# EAGLE library part 4VFX140FF1517 (library xilinx_spartan3_virtex4_and_5)
Xilinx FPGA
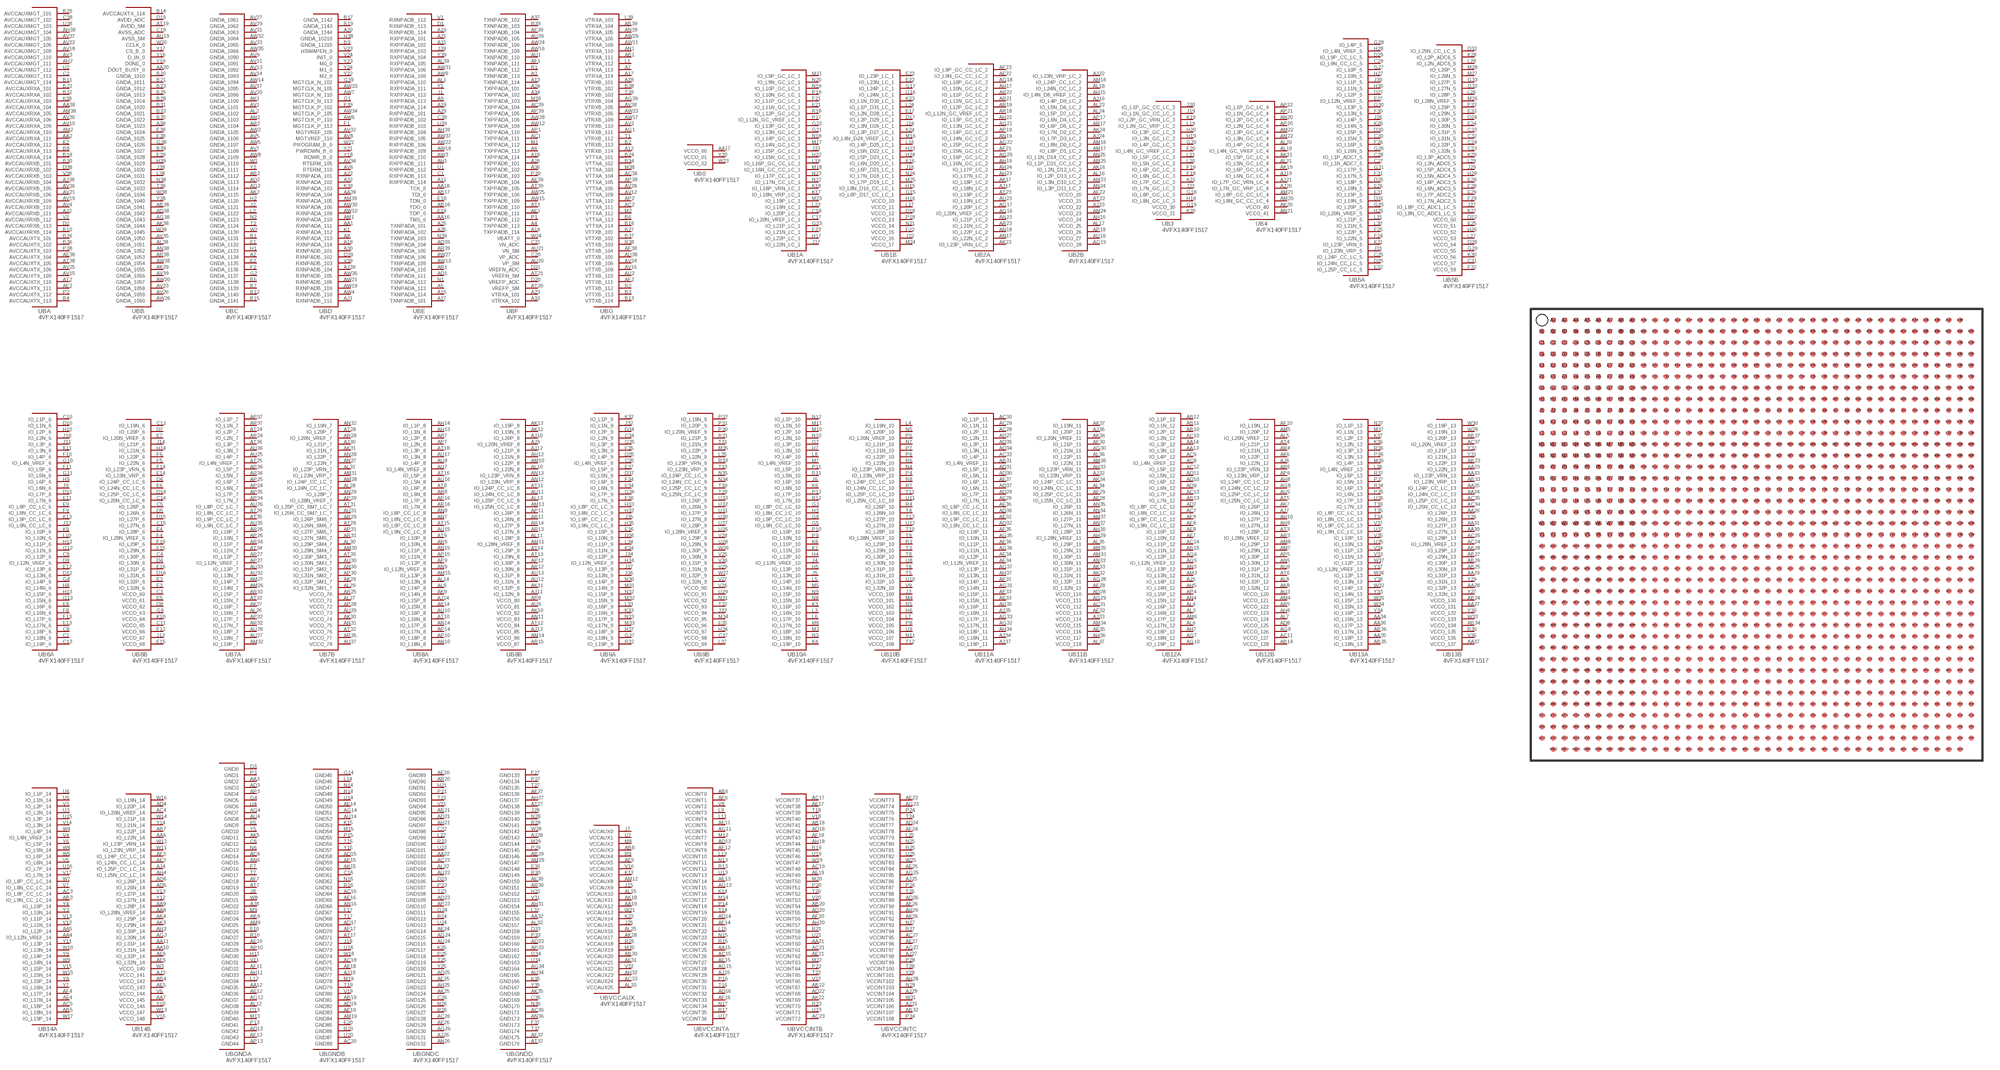
[diagram p70: symbol with the pads of FF1517; footprint FF1517]

Designator prefix U; gates BA=4VFX140FF1517_A BB=4VFX140FF1517_B BC=4VFX140FF1517_C BD=4VFX140FF1517_D BE=4VFX140FF1517_E BF=4VFX140FF1517_F BG=4VFX140FF1517_G B0=4VFX140FF1517_0 B1A=4VFX140FF1517_1A B1B=4VFX140FF1517_1B B2A=4VFX140FF1517_2A B2B=4VFX140FF1517_2B B3=4VFX140FF1517_3 B4=4VFX140FF1517_4 B5A=4VFX140FF1517_5A B5B=4VFX140FF1517_5B B6A=4VFX140FF1517_6A B6B=4VFX140FF1517_6B B7A=4VFX140FF1517_7A B7B=4VFX140FF1517_7B B8A=4VFX140FF1517_8A B8B=4VFX140FF1517_8B B9A=4VFX140FF1517_9A B9B=4VFX140FF1517_9B B10A=4VFX140FF1517_10A B10B=4VFX140FF1517_10B B11A=4VFX140FF1517_11A B11B=4VFX140FF1517_11B B12A=4VFX140FF1517_12A B12B=4VFX140FF1517_12B B13A=4VFX140FF1517_13A B13B=4VFX140FF1517_13B B14A=4VFX140FF1517_14A B14B=4VFX140FF1517_14B BGNDA=4VFX140FF1517_GNDA BGNDB=4VFX140FF1517_GNDB BGNDC=4VFX140FF1517_GNDC BGNDD=4VFX140FF1517_GNDD BVCCAUX=4VFX140FF1517_VCCAUX BVCCINTA=4VFX140FF1517_VCCINTA BVCCINTB=4VFX140FF1517_VCCINTB BVCCINTC=4VFX140FF1517_VCCINTC

## 4VFX140FF1517  [FF1517]
A2  BC:GNDA_1134
A3  BF:TXNPADB_113
A4  BF:TXPPADB_113
A5  BE:TXNPADA_113
A6  BF:TXPPADA_113
A7  BG:VTRXA_113
A8  BD:RXNPADA_113
A9  BE:RXPPADA_113
A10  BE:RXNPADB_114
A11  BE:RXPPADB_114
A12  BG:VTRXB_114
A13  BF:TXNPADB_114
A14  BF:TXPPADB_114
A15  BE:TXNPADA_114
A16  BF:TXPPADA_114
A17  BG:VTRXA_114
A18  BD:RXNPADA_114
A19  BE:RXPPADA_114
A20  BD:GNDA_1144
A21  BE:RXPPADA_101
A22  BD:RXNPADA_101
A23  BF:VTRXA_101
A24  BF:TXPPADA_101
A25  BE:TXNPADA_101
A26  BF:TXPPADB_101
A27  BE:TXNPADB_101
A28  BG:VTRXB_101
A29  BE:RXPPADB_101
A30  BD:RXNPADB_101
A31  BE:RXPPADA_102
A32  BD:RXNPADA_102
A33  BF:VTRXA_102
A34  BF:TXPPADA_102
A35  BE:TXNPADA_102
A36  BF:TXPPADB_102
A37  BF:TXNPADB_102
A38  BB:GNDA_1023
AA1  BD:RXNPADA_111
AA2  BA:AVCCAUXRXA_111
AA3  BGNDA:GND2  pas
AA4  B14A:IO_L12N_VREF_14
AA5  B14A:IO_L12P_14
AA6  B14B:IO_L22N_14
AA7  B14B:VCCO_145  pas
AA8  B14B:IO_L28N_VREF_14
AA9  B14B:IO_L28P_14
AA10  B14B:IO_L31N_14
AA11  B14B:IO_L31P_14
AA12  BGNDA:GND35  pas
AA13  B12A:IO_L3N_12
AA14  B12A:IO_L3P_12
AA15  BVCCINTA:VCCINT25  pas
AA16  BE:TMS_0
AA17  B0:VCCO_00  pas
AA18  BE:TCK_0
AA19  BVCCAUX:VCCAUX12  pas
AA20  BB:DOUT_BUSY_0
AA21  BVCCINTB:VCCINT60  pas
AA22  BGNDC:GND102  pas
AA23  B13B:IO_L22N_13
AA24  B13B:IO_L24N_CC_LC_13
AA25  B13B:IO_L24P_CC_LC_13
AA26  B13B:IO_L26P_13
AA27  B13B:VCCO_131  pas
AA28  B13B:IO_L32P_13
AA29  B13B:IO_L31P_13
AA30  B13B:IO_L27N_13
AA31  B13B:IO_L27P_13
AA32  BGNDD:GND156  pas
AA33  B13B:IO_L23P_VRN_13
AA34  B13A:IO_L16N_13
AA35  B13A:IO_L18P_13
AA36  B13A:IO_L17P_13
AA37  B13B:VCCO_137  pas
AA38  BA:AVCCAUXRXA_104
AA39  BD:RXNPADA_104
AB1  BG:VTRXA_111
AB2  BC:GNDA_1112
AB3  B14A:IO_L9N_CC_LC_14
AB4  B14B:VCCO_142  pas
AB5  B14A:IO_L18N_14
AB6  BVCCINTA:VCCINT0  pas
AB7  B14B:IO_L22P_14
AB8  BVCCAUX:VCCAUX3  pas
AB9  BGNDA:GND24  pas
AB10  B12A:IO_L2P_12
AB11  B12A:IO_L1N_12
AB12  B12A:IO_L1P_12
AB13  B12A:IO_L7N_12
AB14  B12B:VCCO_128  pas
AB15  B12A:IO_L11N_12
AB16  BE:TDO_0
AB17  BE:TDI_0
AB18  BVCCINTB:VCCINT41  pas
AB19  BGNDB:GND81  pas
AB20  BVCCINTB:VCCINT54  pas
AB21  BGNDC:GND95  pas
AB22  BVCCINTB:VCCINT67  pas
AB23  B13B:IO_L22P_13
AB24  B13B:VCCO_130  pas
AB25  B13B:IO_L30N_13
AB26  B13B:IO_L30P_13
AB27  B13B:IO_L29N_13
AB28  B13B:IO_L29P_13
AB29  BGNDD:GND146  pas
AB30  BVCCAUX:VCCAUX20  pas
AB31  B11A:IO_L4N_VREF_11
AB32  BVCCINTC:VCCINT107  pas
AB33  B13B:IO_L23N_VRP_13
AB34  B13B:VCCO_134  pas
AB35  B13A:IO_L18N_13
AB36  B13A:IO_L17N_13
AB37  B13B:IO_L20P_13
AB38  BB:GNDA_1041
AB39  BG:VTRXA_104
AC1  BF:TXPPADA_111
AC2  BG:VTTXA_111
AC3  B14A:IO_L9P_CC_LC_14
AC4  B14B:IO_L20N_VREF_14
AC5  B14A:IO_L18P_14
AC6  BGNDA:GND14  pas
AC7  B12A:IO_L8N_CC_LC_12
AC8  B12A:IO_L4N_VREF_12
AC9  B12A:IO_L4P_12
AC10  B12A:IO_L2N_12
AC11  B12B:VCCO_127  pas
AC12  B12A:IO_L5P_12
AC13  B12A:IO_L7P_12
AC14  B12A:IO_L11P_12
AC15  BVCCINTA:VCCINT26  pas
AC16  BGNDB:GND64  pas
AC17  BVCCINTB:VCCINT37  pas
AC18  BGNDB:GND75  pas
AC19  BVCCINTB:VCCINT48  pas
AC20  BGNDB:GND88  pas
AC21  BVCCINTB:VCCINT61  pas
AC22  BGNDC:GND103  pas
AC23  BVCCINTB:VCCINT72  pas
AC24  B13B:IO_L28N_VREF_13
AC25  B13B:IO_L28P_13
AC26  BGNDC:GND128  pas
AC27  BVCCINTC:VCCINT95  pas
AC28  B11A:IO_L2P_11
AC29  B11A:IO_L1N_11
AC30  B11A:IO_L1P_11
AC31  B11B:VCCO_112  pas
AC32  B11A:IO_L4P_11
AC33  BVCCAUX:VCCAUX24  pas
AC34  B13B:IO_L25N_CC_LC_13
AC35  B13B:IO_L25P_CC_LC_13
AC36  BGNDD:GND171  pas
AC37  B13B:IO_L20N_VREF_13
AC38  BG:VTTXA_104
AC39  BF:TXPPADA_104
AD1  BE:TXNPADA_111
AD2  BC:GNDA_1113
AD3  BGNDA:GND3  pas
AD4  B14B:IO_L20P_14
AD5  B14B:IO_L26N_14
AD6  B14B:IO_L26P_14
AD7  B12A:IO_L8P_CC_LC_12
AD8  B12B:VCCO_125  pas
AD9  B12A:IO_L6N_12
AD10  B12A:IO_L6P_12
AD11  B12A:IO_L5N_12
AD12  BVCCINTA:VCCINT8  pas
AD13  BGNDA:GND42  pas
AD14  BVCCINTA:VCCINT20  pas
AD15  BGNDB:GND58  pas
AD16  BVCCINTA:VCCINT32  pas
AD17  BGNDB:GND69  pas
AD18  BVCCINTB:VCCINT42  pas
AD19  BGNDB:GND82  pas
AD20  BVCCINTB:VCCINT55  pas
AD21  BGNDC:GND96  pas
AD22  BVCCINTB:VCCINT68  pas
AD23  BGNDC:GND109  pas
AD24  BVCCINTC:VCCINT77  pas
AD25  BGNDC:GND121  pas
AD26  BVCCINTC:VCCINT89  pas
AD27  B11A:IO_L2N_11
AD28  B11B:VCCO_110  pas
AD29  B11A:IO_L7P_11
AD30  B11A:IO_L5N_11
AD31  B11A:IO_L5P_11
AD32  B11A:IO_L9N_CC_LC_11
AD33  BGNDD:GND160  pas
AD34  B11A:IO_L3N_11
AD35  B11A:IO_L3P_11
AD36  B11A:IO_L8N_CC_LC_11
AD37  B11A:IO_L6N_11
AD38  BB:GNDA_1042
AD39  BE:TXNPADA_104
AE1  BF:TXPPADB_111
AE2  BA:AVCCAUXTX_111
AE3  B14B:IO_L24N_CC_LC_14
AE4  B14A:IO_L17N_14
AE5  B14B:VCCO_143  pas
AE6  B14B:IO_L32P_14
AE7  B12A:IO_L10N_12
AE8  B12A:IO_L10P_12
AE9  BVCCAUX:VCCAUX5  pas
AE10  BGNDA:GND28  pas
AE11  BVCCINTA:VCCINT5  pas
AE12  BGNDA:GND36  pas
AE13  BVCCINTA:VCCINT14  pas
AE14  BGNDB:GND50  pas
AE15  BVCCINTA:VCCINT27  pas
AE16  BGNDB:GND65  pas
AE17  BVCCINTB:VCCINT38  pas
AE18  BGNDB:GND76  pas
AE19  BVCCINTB:VCCINT49  pas
AE20  BGNDC:GND89  pas
AE21  BVCCINTB:VCCINT62  pas
AE22  B2A:IO_L9N_GC_CC_LC_2
AE23  BVCCINTC:VCCINT73  pas
AE24  BGNDC:GND114  pas
AE25  BVCCINTC:VCCINT84  pas
AE26  BGNDC:GND129  pas
AE27  BVCCINTC:VCCINT96  pas
AE28  B11B:IO_L25N_CC_LC_11
AE29  B11A:IO_L7N_11
AE30  BGNDD:GND150  pas
AE31  BVCCAUX:VCCAUX21  pas
AE32  B11A:IO_L9P_CC_LC_11
AE33  B11A:IO_L15N_11
AE34  B11A:IO_L12P_11
AE35  B11B:VCCO_116  pas
AE36  B11A:IO_L8P_CC_LC_11
AE37  B11A:IO_L6P_11
AE38  BA:AVCCAUXTX_104
AE39  BF:TXPPADB_104
AF1  BF:TXNPADB_111
AF2  BG:VTTXB_111
AF3  B14B:IO_L24P_CC_LC_14
AF4  B14A:IO_L17P_14
AF5  B14B:IO_L32N_14
AF6  BVCCINTA:VCCINT1  pas
AF7  BGNDA:GND18  pas
AF8  B12A:IO_L9N_CC_LC_12
AF9  B12A:IO_L9P_CC_LC_12
AF10  B12B:IO_L19N_12
AF11  BGNDA:GND32  pas
AF12  BVCCINTA:VCCINT9  pas
AF13  BGNDA:GND43  pas
AF14  BVCCINTA:VCCINT21  pas
AF15  BGNDB:GND59  pas
AF16  BVCCINTA:VCCINT33  pas
AF17  BGNDB:GND70  pas
AF18  BVCCINTB:VCCINT43  pas
AF19  BGNDB:GND83  pas
AF20  BVCCINTB:VCCINT56  pas
AF21  B2A:IO_L15N_GC_LC_2
AF22  B2B:VCCO_20  pas
AF23  B2A:IO_L9P_GC_CC_LC_2
AF24  BVCCINTC:VCCINT78  pas
AF25  BGNDC:GND122  pas
AF26  BVCCINTC:VCCINT90  pas
AF27  BGNDD:GND136  pas
AF28  B11B:IO_L32N_11
AF29  B11B:IO_L25P_CC_LC_11
AF30  B11B:IO_L21P_11
AF31  B11A:IO_L14P_11
AF32  B11B:VCCO_113  pas
AF33  B11A:IO_L15P_11
AF34  B11A:IO_L12N_VREF_11
AF35  B11A:IO_L10P_11
AF36  B11A:IO_L11P_11
AF37  BGNDD:GND175  pas
AF38  BG:VTTXB_104
AF39  BF:TXNPADB_104
AG1  BG:VTRXB_111
AG2  BC:GNDA_1114
AG3  B14B:IO_L30N_14
AG4  BGNDA:GND7  pas
AG5  B12A:IO_L12N_VREF_12
AG6  B12A:IO_L12P_12
AG7  B12A:IO_L18N_12
AG8  B12B:IO_L24N_CC_LC_12
AG9  B12B:VCCO_126  pas
AG10  B12A:IO_L19P_12
AG11  BVCCINTA:VCCINT6  pas
AG12  BGNDA:GND37  pas
AG13  BVCCINTA:VCCINT15  pas
AG14  BGNDB:GND51  pas
AG15  BVCCINTA:VCCINT28  pas
AG16  B2A:IO_L20N_VREF_LC_2
AG17  B2A:IO_L20P_LC_2
AG18  B2A:IO_L10P_GC_LC_2
AG19  B2B:VCCO_28  pas
AG20  B2A:IO_L16P_GC_LC_2
AG21  B2A:IO_L13N_GC_LC_2
AG22  B2A:IO_L15P_GC_LC_2
AG23  BVCCINTC:VCCINT74  pas
AG24  BGNDC:GND115  pas
AG25  BVCCINTC:VCCINT85  pas
AG26  BGNDC:GND130  pas
AG27  BVCCINTC:VCCINT97  pas
AG28  B11B:IO_L32P_11
AG29  B11B:VCCO_111  pas
AG30  B11B:IO_L21N_11
AG31  B11A:IO_L14N_11
AG32  B11A:IO_L17N_11
AG33  B11A:IO_L17P_11
AG34  BGNDD:GND164  pas
AG35  B11A:IO_L10N_11
AG36  B11A:IO_L11N_11
AG37  B11A:IO_L13P_11
AG38  BB:GNDA_1043
AG39  BG:VTRXB_104
AH1  BE:RXPPADB_111
AH2  BA:AVCCAUXMGT_111
AH3  B14B:IO_L30P_14
AH4  B14B:IO_L25N_CC_LC_14
AH5  B12A:IO_L14N_12
AH6  B12B:VCCO_123  pas
AH7  B12A:IO_L18P_12
AH8  B12B:IO_L24P_CC_LC_12
AH9  B12B:IO_L27N_12
AH10  B12B:IO_L27P_12
AH11  BGNDA:GND33  pas
AH12  B8B:IO_L21N_8
AH13  B8A:IO_L1N_8
AH14  B8A:IO_L1P_8
AH15  B2B:IO_L4N_D8_VREF_LC_2
AH16  B2B:VCCO_24  pas
AH17  B2A:IO_L10N_GC_LC_2
AH18  BVCCINTB:VCCINT44  pas
AH19  B2A:IO_L16N_GC_LC_2
AH20  BVCCINTB:VCCINT57  pas
AH21  BGNDC:GND97  pas
AH22  B2A:IO_L13P_GC_LC_2
AH23  B2A:IO_L17N_LC_2
AH24  B2A:IO_L17P_LC_2
AH25  BGNDC:GND123  pas
AH26  BVCCINTC:VCCINT91  pas
AH27  BGNDD:GND137  pas
AH28  BVCCINTC:VCCINT102  pas
AH29  B11B:IO_L28N_VREF_11
AH30  B11B:IO_L28P_11
AH31  BGNDD:GND154  pas
AH32  BVCCAUX:VCCAUX23  pas
AH33  B11B:IO_L23P_VRN_11
AH34  B11A:IO_L18P_11
AH35  B11A:IO_L16P_11
AH36  B11B:VCCO_117  pas
AH37  B11A:IO_L13N_11
AH38  BA:AVCCAUXMGT_104
AH39  BE:RXPPADB_104
AJ1  BD:RXNPADB_111
AJ2  BA:AVCCAUXRXB_111
AJ3  B14B:VCCO_141  pas
AJ4  B14B:IO_L25P_CC_LC_14
AJ5  B12A:IO_L14P_12
AJ6  B12B:IO_L22N_12
AJ7  B12B:IO_L26N_12
AJ8  BGNDA:GND22  pas
AJ9  B8B:IO_L20N_VREF_8
AJ10  B8B:IO_L20P_8
AJ11  B8B:IO_L32N_8
AJ12  B8B:IO_L21P_8
AJ13  B8B:VCCO_85  pas
AJ14  B8A:IO_L15P_8
AJ15  BVCCINTA:VCCINT29  pas
AJ16  B2B:IO_L4P_D9_LC_2
AJ17  B2A:IO_L18N_LC_2
AJ18  BGNDB:GND77  pas
AJ19  B4:IO_L6N_GC_LC_4
AJ20  B4:IO_L7N_GC_VRP_LC_4
AJ21  B4:IO_L7P_GC_VRN_LC_4
AJ22  B2B:IO_L23N_VRP_LC_2
AJ23  B2B:VCCO_22  pas
AJ24  B2B:IO_L7P_D3_LC_2
AJ25  BVCCINTC:VCCINT86  pas
AJ26  BGNDC:GND131  pas
AJ27  BVCCINTC:VCCINT98  pas
AJ28  BGNDD:GND143  pas
AJ29  BVCCINTC:VCCINT104  pas
AJ30  B7B:IO_L21P_7
AJ31  BVCCINTC:VCCINT106  pas
AJ32  B11B:IO_L23N_VRP_11
AJ33  B11B:VCCO_114  pas
AJ34  B11A:IO_L18N_11
AJ35  B11A:IO_L16N_11
AJ36  B11B:IO_L20P_11
AJ37  B11A:IO_L19P_11
AJ38  BA:AVCCAUXRXB_104
AJ39  BD:RXNPADB_104
AK1  BC:GNDA_1100
AK2  BC:GNDA_1115
AK3  B14B:IO_L29N_14
AK4  B14B:IO_L29P_14
AK5  BGNDA:GND11  pas
AK6  B12B:IO_L22P_12
AK7  B12B:IO_L26P_12
AK8  B12B:IO_L32N_12
AK9  B8A:IO_L14N_8
AK10  B8B:VCCO_82  pas
AK11  B8B:IO_L32P_8
AK12  B8B:IO_L19N_8
AK13  B8B:IO_L19P_8
AK14  B8A:IO_L15N_8
AK15  BGNDB:GND60  pas
AK16  B2B:IO_L2N_D12_LC_2
AK17  B2A:IO_L18P_LC_2
AK18  BVCCAUX:VCCAUX11  pas
AK19  B4:IO_L6P_GC_LC_4
AK20  B4:VCCO_40  pas
AK21  B4:IO_L5P_GC_LC_4
AK22  BVCCINTB:VCCINT69  pas
AK23  B2A:IO_L23P_VRN_LC_2
AK24  B2B:IO_L7N_D2_LC_2
AK25  BGNDC:GND124  pas
AK26  BVCCINTC:VCCINT92  pas
AK27  B7A:IO_L16P_7
AK28  BVCCAUX:VCCAUX17  pas
AK29  B7B:IO_L32P_SM1_7
AK30  B7B:VCCO_74  pas
AK31  B7B:IO_L21N_7
AK32  B11B:IO_L31N_11
AK33  B11B:IO_L31P_11
AK34  B11B:IO_L24P_CC_LC_11
AK35  BGNDD:GND168  pas
AK36  B11B:IO_L20N_VREF_11
AK37  B11B:IO_L19N_11
AK38  BB:GNDA_1044
AK39  BB:GNDA_1055
AL1  BE:RXPPADA_110
AL2  BC:GNDA_1102
AL3  B12A:IO_L16N_12
AL4  B12A:IO_L16P_12
AL5  B12B:IO_L20N_VREF_12
AL6  B12A:IO_L17N_12
AL7  B12B:VCCO_124  pas
AL8  B12B:IO_L32P_12
AL9  B8A:IO_L14P_8
AL10  B8B:IO_L22N_8
AL11  B8B:IO_L28P_8
AL12  BGNDA:GND38  pas
AL13  B8B:IO_L25P_CC_LC_8
AL14  B8A:IO_L13N_8
AL15  BVCCAUX:VCCAUX10  pas
AL16  B2B:IO_L2P_D13_LC_2
AL17  B2B:VCCO_25  pas
AL18  B2B:IO_L24N_CC_LC_2
AL19  B4:IO_L4N_GC_VREF_LC_4
AL20  B4:IO_L4P_GC_LC_4
AL21  B4:IO_L5N_GC_LC_4
AL22  BGNDC:GND104  pas
AL23  B2B:IO_L5N_D6_LC_2
AL24  B2B:IO_L5P_D7_LC_2
AL25  BVCCAUX:VCCAUX16  pas
AL26  B7A:IO_L16N_7
AL27  B7B:VCCO_71  pas
AL28  B7B:IO_L24N_CC_LC_7
AL29  B7B:IO_L32N_SM1_7
AL30  B7B:IO_L29P_SM4_7
AL31  B7B:IO_L23P_VRN_7
AL32  BGNDD:GND157  pas
AL33  BVCCAUX:VCCAUX25  pas
AL34  B11B:IO_L24N_CC_LC_11
AL35  B11B:IO_L29P_11
AL36  B11B:IO_L22P_11
AL37  B11B:VCCO_118  pas
AL38  BB:GNDA_1051
AL39  BE:RXPPADA_105
AM1  BD:RXNPADA_110
AM2  BA:AVCCAUXRXA_110
AM3  B12A:IO_L13N_12
AM4  B12B:VCCO_121  pas
AM5  B12B:IO_L20P_12
AM6  B12A:IO_L17P_12
AM7  B12B:IO_L29N_12
AM8  B12B:IO_L29P_12
AM9  BGNDA:GND25  pas
AM10  B8B:IO_L22P_8
AM11  B8B:IO_L28N_VREF_8
AM12  BVCCAUX:VCCAUX8  pas
AM13  B8B:IO_L25N_CC_LC_8
AM14  B8B:VCCO_86  pas
AM15  B8A:IO_L13P_8
AM16  B2B:IO_L8N_D0_LC_2
AM17  B2B:IO_L8P_D1_LC_2
AM18  B2B:IO_L24P_CC_LC_2
AM19  BGNDB:GND84  pas
AM20  B4:IO_L8N_GC_CC_LC_4
AM21  B4:IO_L8P_GC_CC_LC_4
AM22  B4:IO_L3P_GC_LC_4
AM23  B2B:IO_L3N_D10_LC_2
AM24  B2B:VCCO_23  pas
AM25  B2B:IO_L1P_D15_CC_LC_2
AM26  B7A:IO_L14N_7
AM27  B7A:IO_L14P_7
AM28  B7B:IO_L24P_CC_LC_7
AM29  BGNDD:GND147  pas
AM30  B7B:IO_L29N_SM4_7
AM31  B7B:IO_L23N_VRP_7
AM32  B7A:IO_L19P_7
AM33  B11B:IO_L30P_11
AM34  B11B:VCCO_115  pas
AM35  B11B:IO_L29N_11
AM36  B11B:IO_L22N_11
AM37  B11B:IO_L27P_11
AM38  BA:AVCCAUXRXA_105
AM39  BD:RXNPADA_105
AN1  BG:VTRXA_110
AN2  BC:GNDA_1103
AN3  B12A:IO_L13P_12
AN4  B12A:IO_L15N_12
AN5  B12B:IO_L30N_12
AN6  BGNDA:GND15  pas
AN7  B8A:IO_L8N_CC_LC_8
AN8  B8A:IO_L8P_CC_LC_8
AN9  B8A:IO_L12N_VREF_8
AN10  B8A:IO_L18N_8
AN11  B8B:VCCO_83  pas
AN12  B8B:IO_L23N_VRP_8
AN13  B8B:IO_L23P_VRN_8
AN14  B8A:IO_L17P_8
AN15  B8A:IO_L11P_8
AN16  BGNDB:GND66  pas
AN17  B2A:IO_L22N_LC_2
AN18  B2A:IO_L22P_LC_2
AN19  B2A:IO_L14N_GC_LC_2
AN20  B4:IO_L2P_GC_LC_4
AN21  B4:VCCO_41  pas
AN22  B4:IO_L3N_GC_LC_4
AN23  B2A:IO_L21P_LC_2
AN24  B2B:IO_L3P_D11_LC_2
AN25  B2B:IO_L1N_D14_CC_LC_2
AN26  BGNDC:GND132  pas
AN27  B7B:IO_L22N_7
AN28  B7B:IO_L22P_7
AN29  B7B:IO_L28P_7
AN30  B7B:IO_L31P_SM2_7
AN31  B7B:VCCO_75  pas
AN32  B7B:IO_L19N_7
AN33  B11B:IO_L30N_11
AN34  B11B:IO_L26N_11
AN35  B11B:IO_L26P_11
AN36  BGNDD:GND172  pas
AN37  B11B:IO_L27N_11
AN38  BB:GNDA_1052
AN39  BG:VTRXA_105
AP1  BF:TXPPADA_110
AP2  BG:VTTXA_110
AP3  BGNDA:GND4  pas
AP4  B12A:IO_L15P_12
AP5  B12B:IO_L30P_12
AP6  B12B:IO_L23N_VRP_12
AP7  B8A:IO_L2N_8
AP8  B8B:VCCO_80  pas
AP9  B8A:IO_L12P_8
AP10  B8A:IO_L18P_8
AP11  B8B:IO_L26P_8
AP12  B8B:IO_L30P_8
AP13  BGNDA:GND44  pas
AP14  B8A:IO_L17N_8
AP15  B8A:IO_L11N_8
AP16  B8A:IO_L7P_8
AP17  B2B:IO_L6N_D4_LC_2
AP18  B2B:VCCO_26  pas
AP19  B2A:IO_L14P_GC_LC_2
AP20  B4:IO_L2N_GC_LC_4
AP21  B4:IO_L1N_GC_LC_4
AP22  B4:IO_L1P_GC_LC_4
AP23  BGNDC:GND110  pas
AP24  B7A:IO_L6N_7
AP25  B7A:IO_L6P_7
AP26  B7A:IO_L10N_7
AP27  B7A:IO_L12N_VREF_7
AP28  B7B:VCCO_72  pas
AP29  B7B:IO_L28N_VREF_7
AP30  B7B:IO_L31N_SM2_7
AP31  B7B:IO_L27P_SM5_7
AP32  B7A:IO_L17P_7
AP33  BGNDD:GND161  pas
AP34  B7A:IO_L7N_7
AP35  B7A:IO_L7P_7
AP36  B7A:IO_L5P_7
AP37  B7A:IO_L1P_7
AP38  BG:VTTXA_105
AP39  BF:TXPPADA_105
AR1  BE:TXNPADA_110
AR2  BC:GNDA_1104
AR3  B12B:IO_L28N_VREF_12
AR4  B12B:IO_L21N_12
AR5  B12B:VCCO_122  pas
AR6  B12B:IO_L23P_VRN_12
AR7  B8A:IO_L2P_8
AR8  B8A:IO_L6N_8
AR9  B8A:IO_L10N_8
AR10  BGNDA:GND29  pas
AR11  B8B:IO_L26N_8
AR12  B8B:IO_L30N_8
AR13  B8B:IO_L27N_8
AR14  B8B:IO_L27P_8
AR15  B8B:VCCO_87  pas
AR16  B8A:IO_L7N_8
AR17  B2B:IO_L6P_D5_LC_2
AR18  B2A:IO_L12N_GC_VREF_LC_2
AR19  B2A:IO_L12P_GC_LC_2
AR20  BGNDC:GND90  pas
AR21  B2A:IO_L11N_GC_LC_2
AR22  B2A:IO_L11P_GC_LC_2
AR23  B2A:IO_L21N_LC_2
AR24  B7A:IO_L2N_7
AR25  B7B:VCCO_70  pas
AR26  B7A:IO_L10P_7
AR27  B7A:IO_L12P_7
AR28  B7B:IO_L20N_VREF_7
AR29  B7B:IO_L26P_SM6_7
AR30  BGNDD:GND151  pas
AR31  B7B:IO_L27N_SM5_7
AR32  B7A:IO_L17N_7
AR33  B7A:IO_L15P_7
AR34  B7A:IO_L11P_7
AR35  B7B:VCCO_77  pas
AR36  B7A:IO_L5N_7
AR37  B7A:IO_L1N_7
AR38  BB:GNDA_1053
AR39  BE:TXNPADA_105
AT1  BF:TXPPADB_110
AT2  BA:AVCCAUXTX_110
AT3  B12B:IO_L28P_12
AT4  B12B:IO_L21P_12
AT5  B12B:IO_L25N_CC_LC_12
AT6  B12B:IO_L31N_12
AT7  BGNDA:GND19  pas
AT8  B8A:IO_L6P_8
AT9  B8A:IO_L10P_8
AT10  B8A:IO_L16N_8
AT11  B8B:IO_L24P_CC_LC_8
AT12  B8B:VCCO_84  pas
AT13  B8B:IO_L29N_8
AT14  B8B:IO_L29P_8
AT15  B8A:IO_L9P_CC_LC_8
AT16  B8A:IO_L5P_8
AT17  BGNDB:GND71  pas
AT18  B8A:IO_L3P_8
AT19  BB:AVDD_SM
AT20  BF:VREFP_SM
AT21  BF:VREFN_SM
AT22  B2B:VCCO_21  pas
AT23  B2A:IO_L19P_LC_2
AT24  B7A:IO_L2P_7
AT25  B7A:IO_L4N_VREF_7
AT26  B7A:IO_L8N_CC_LC_7
AT27  BGNDD:GND138  pas
AT28  B7B:IO_L20P_7
AT29  B7B:IO_L26N_SM6_7
AT30  B7B:IO_L30P_SM3_7
AT31  B7B:IO_L25P_CC_SM7_LC_7
AT32  B7B:VCCO_76  pas
AT33  B7A:IO_L15N_7
AT34  B7A:IO_L11N_7
AT35  B7A:IO_L9P_CC_LC_7
AT36  B7A:IO_L3P_7
AT37  BGNDD:GND176  pas
AT38  BA:AVCCAUXTX_105
AT39  BF:TXPPADB_105
AU1  BF:TXNPADB_110
AU2  BG:VTTXB_110
AU3  B12B:VCCO_120  pas
AU4  BGNDA:GND8  pas
AU5  B12B:IO_L25P_CC_LC_12
AU6  B12B:IO_L31P_12
AU7  B8A:IO_L4N_VREF_8
AU8  B8A:IO_L4P_8
AU9  B8B:VCCO_81  pas
AU10  B8A:IO_L16P_8
AU11  B8B:IO_L24N_CC_LC_8
AU12  B8B:IO_L31N_8
AU13  B8B:IO_L31P_8
AU14  BGNDB:GND52  pas
AU15  B8A:IO_L9N_CC_LC_8
AU16  B8A:IO_L5N_8
AU17  B8A:IO_L3N_8
AU18  B2B:VCCO_27  pas
AU19  BB:AVSS_SM
AU20  BF:VP_SM
AU21  BF:VN_SM
AU22  BGNDC:GND105  pas
AU23  B2A:IO_L19N_LC_2
AU24  BGNDC:GND116  pas
AU25  B7A:IO_L4P_7
AU26  B7A:IO_L8P_CC_LC_7
AU27  B7A:IO_L18N_7
AU28  B7A:IO_L18P_7
AU29  B7B:VCCO_73  pas
AU30  B7B:IO_L30N_SM3_7
AU31  B7B:IO_L25N_CC_SM7_LC_7
AU32  B7A:IO_L13N_7
AU33  B7A:IO_L13P_7
AU34  BGNDD:GND165  pas
AU35  B7A:IO_L9N_CC_LC_7
AU36  B7A:IO_L3N_7
AU37  B7B:VCCO_78  pas
AU38  BG:VTTXB_105
AU39  BF:TXNPADB_105
AV1  BC:GNDA_1101
AV2  BG:VTRXB_110
AV3  BA:AVCCAUXMGT_110
AV4  BA:AVCCAUXRXB_110
AV5  BC:GNDA_1106
AV6  BD:RTERM_110
AV7  BC:GNDA_1108
AV8  BD:MGTVREF_110
AV9  BC:GNDA_1090
AV10  BA:AVCCAUXRXA_109
AV11  BC:GNDA_1091
AV12  BG:VTTXA_109
AV13  BC:GNDA_1092
AV14  BC:GNDA_1093
AV15  BA:AVCCAUXTX_109
AV16  BG:VTTXB_109
AV17  BC:GNDA_1095
AV18  BA:AVCCAUXMGT_109
AV19  BA:AVCCAUXRXB_109
AV20  BC:GNDA_1096
AV21  BA:AVCCAUXRXB_106
AV22  BA:AVCCAUXMGT_106
AV23  BB:GNDA_1058
AV24  BG:VTTXB_106
AV25  BA:AVCCAUXTX_106
AV26  BB:GNDA_1059
AV27  BC:GNDA_1061
AV28  BG:VTTXA_106
AV29  BC:GNDA_1062
AV30  BA:AVCCAUXRXA_106
AV31  BC:GNDA_1063
AV32  BD:MGTVREF_105
AV33  BC:GNDA_1065
AV34  BD:RTERM_105
AV35  BB:GNDA_1050
AV36  BA:AVCCAUXRXB_105
AV37  BA:AVCCAUXMGT_105
AV38  BG:VTRXB_105
AV39  BB:GNDA_1056
AW2  BC:GNDA_1105
AW3  BE:RXPPADB_110
AW4  BD:RXNPADB_110
AW5  BC:GNDA_1107
AW6  BD:MGTCLK_P_110
AW7  BD:MGTCLK_N_110
AW8  BC:GNDA_1109
AW9  BE:RXPPADA_109
AW10  BD:RXNPADA_109
AW11  BG:VTRXA_109
AW12  BF:TXPPADA_109
AW13  BE:TXNPADA_109
AW14  BC:GNDA_1094
AW15  BF:TXPPADB_109
AW16  BF:TXNPADB_109
AW17  BG:VTRXB_109
AW18  BE:RXPPADB_109
AW19  BD:RXNPADB_109
AW20  BB:GNDA_1057
AW21  BD:RXNPADB_106
AW22  BE:RXPPADB_106
AW23  BG:VTRXB_106
AW24  BF:TXNPADB_106
AW25  BF:TXPPADB_106
AW26  BB:GNDA_1060
AW27  BE:TXNPADA_106
AW28  BF:TXPPADA_106
AW29  BG:VTRXA_106
AW30  BD:RXNPADA_106
AW31  BE:RXPPADA_106
AW32  BC:GNDA_1064
AW33  BD:MGTCLK_N_105
AW34  BD:MGTCLK_P_105
AW35  BC:GNDA_1066
AW36  BD:RXNPADB_105
AW37  BE:RXPPADB_105
AW38  BB:GNDA_1054
B1  BC:GNDA_1131
B2  BG:VTRXB_113
B3  BG:VTTXB_113
B4  BA:AVCCAUXTX_113
B5  BC:GNDA_1138
B6  BG:VTTXA_113
B7  BC:GNDA_1139
B8  BA:AVCCAUXRXA_113
B9  BD:GNDA_11310
B10  BA:AVCCAUXRXB_114
B11  BA:AVCCAUXMGT_114
B12  BC:GNDA_1140
B13  BG:VTTXB_114
B14  BB:AVCCAUXTX_114
B15  BC:GNDA_1141
B16  BG:VTTXA_114
B17  BD:GNDA_1142
B18  BA:AVCCAUXRXA_114
B19  BD:GNDA_1143
B20  BB:GNDA_1010
B21  BB:GNDA_1011
B22  BA:AVCCAUXRXA_101
B23  BB:GNDA_1012
B24  BG:VTTXA_101
B25  BB:GNDA_1013
B26  BA:AVCCAUXTX_101
B27  BG:VTTXB_101
B28  BB:GNDA_1014
B29  BA:AVCCAUXMGT_101
B30  BA:AVCCAUXRXB_101
B31  BB:GNDA_1020
B32  BA:AVCCAUXRXA_102
B33  BB:GNDA_1021
B34  BG:VTTXA_102
B35  BB:GNDA_1022
B36  BA:AVCCAUXTX_102
B37  BG:VTTXB_102
B38  BG:VTRXB_102
B39  BB:GNDA_1027
C1  BE:RXPPADB_113
C2  BA:AVCCAUXMGT_113
C3  B6B:VCCO_60  pas
C4  B6B:IO_L30P_6
C5  B6B:IO_L26P_6
C6  BGNDA:GND12  pas
C7  B6A:IO_L18N_6
C8  B6A:IO_L18P_6
C9  B6A:IO_L12P_6
C10  B6A:IO_L1P_6
C11  B6B:VCCO_65  pas
C12  B6B:IO_L19N_6
C13  B6A:IO_L19P_6
C14  B6B:IO_L25N_CC_LC_6
C15  B6B:IO_L27N_6
C16  BGNDB:GND61  pas
C17  B1A:IO_L20N_VREF_LC_1
C18  B1A:IO_L20P_LC_1
C19  BB:AVSS_ADC
C20  BF:VP_ADC
C21  BF:VN_ADC
C22  BGNDC:GND98  pas
C23  B5B:IO_L32N_5
C24  B5B:IO_L32P_5
C25  B5A:IO_L24P_CC_LC_5
C26  BGNDC:GND125  pas
C27  B5A:IO_L1N_ADC7_5
C28  B5A:IO_L1P_ADC7_5
C29  B5A:IO_L9N_CC_LC_5
C30  B5A:IO_L15N_5
C31  B5B:VCCO_57  pas
C32  B5B:IO_L31N_5
C33  B5B:IO_L31P_5
C34  B9A:IO_L2N_9
C35  B9A:IO_L4N_VREF_9
C36  BGNDD:GND169  pas
C37  B9B:VCCO_98  pas
C38  BA:AVCCAUXMGT_102
C39  BE:RXPPADB_102
D1  BE:RXNPADB_113
D2  BA:AVCCAUXRXB_113
D3  BGNDA:GND0  pas
D4  B6B:IO_L30N_6
D5  B6B:IO_L26N_6
D6  B6B:IO_L24P_CC_LC_6
D7  B6B:IO_L20P_6
D8  B6B:VCCO_62  pas
D9  B6A:IO_L12N_VREF_6
D10  B6A:IO_L1N_6
D11  B6A:IO_L7P_6
D12  B6A:IO_L13N_6
D13  BGNDA:GND39  pas
D14  B6B:IO_L25P_CC_LC_6
D15  B6B:IO_L27P_6
D16  B6B:IO_L31N_6
D17  B1B:IO_L2P_D29_LC_1
D18  B1B:VCCO_12  pas
D19  BB:AVDD_ADC
D20  BF:VREFP_ADC
D21  BF:VREFN_ADC
D22  B5B:VCCO_50  pas
D23  BGNDC:GND106  pas
D24  B5B:IO_L30P_5
D25  B5A:IO_L24N_CC_LC_5
D26  B5A:IO_L18P_5
D27  B5A:IO_L12P_5
D28  B5B:VCCO_54  pas
D29  B5A:IO_L9P_CC_LC_5
D30  B5A:IO_L15P_5
D31  B5A:IO_L19N_5
D32  B5B:IO_L25N_CC_LC_5
D33  BGNDD:GND158  pas
D34  B9A:IO_L2P_9
D35  B9A:IO_L4P_9
D36  B9A:IO_L10N_9
D37  B9A:IO_L5N_9
D38  BA:AVCCAUXRXB_102
D39  BD:RXNPADB_102
E1  BC:GNDA_1132
E2  BC:GNDA_1135
E3  B6B:IO_L32P_6
E4  B6B:IO_L28P_6
E5  B6B:VCCO_61  pas
E6  B6B:IO_L24N_CC_LC_6
E7  B6B:IO_L20N_VREF_6
E8  B6A:IO_L16P_6
E9  B6A:IO_L8P_CC_LC_6
E10  BGNDA:GND26  pas
E11  B6A:IO_L7N_6
E12  B6A:IO_L13P_6
E13  B6A:IO_L17N_6
E14  B6B:IO_L23N_VRP_6
E15  B6B:VCCO_68  pas
E16  B6B:IO_L31P_6
E17  B1B:IO_L2N_D28_LC_1
E18  BE:TDN_0
E19  BE:TDP_0
E20  BGNDB:GND85  pas
E21  B1A:IO_L11N_GC_LC_1
E22  B1B:IO_L23N_LC_1
E23  B1B:IO_L23P_LC_1
E24  B5B:IO_L30N_5
E25  B5B:VCCO_51  pas
E26  B5A:IO_L18N_5
E27  B5A:IO_L12N_VREF_5
E28  B5B:IO_L6P_ADC3_5
E29  B5B:IO_L7P_ADC2_5
E30  BGNDD:GND148  pas
E31  B5A:IO_L19P_5
E32  B5A:IO_L25P_CC_LC_5
E33  B5B:IO_L29N_5
E34  B9A:IO_L6N_9
E35  B9B:VCCO_96  pas
E36  B9A:IO_L10P_9
E37  B9A:IO_L5P_9
E38  BB:GNDA_1024
E39  BB:GNDA_1028
F1  BD:MGTCLK_P_113
F2  BC:GNDA_1136
F3  B6B:IO_L32N_6
F4  B6B:IO_L28N_VREF_6
F5  B6B:IO_L22N_6
F6  B6B:IO_L22P_6
F7  BGNDA:GND16  pas
F8  B6A:IO_L16N_6
F9  B6A:IO_L8N_CC_LC_6
F10  B6A:IO_L4P_6
F11  B6A:IO_L5P_6
F12  B6B:VCCO_66  pas
F13  B6A:IO_L17P_6
F14  B6B:IO_L23P_VRN_6
F15  B6B:IO_L29N_6
F16  B6B:IO_L29P_6
F17  BGNDB:GND67  pas
F18  B3:IO_L6N_GC_LC_3
F19  B3:IO_L6P_GC_LC_3
F20  B3:IO_L4N_GC_VREF_LC_3
F21  B1A:IO_L11P_GC_LC_1
F22  B1B:VCCO_15  pas
F23  B1A:IO_L21N_LC_1
F24  B5A:IO_L22N_5
F25  B5A:IO_L22P_5
F26  B5A:IO_L16P_5
F27  BGNDD:GND133  pas
F28  B5B:IO_L6N_ADC3_5
F29  B5B:IO_L7N_ADC2_5
F30  B5A:IO_L13N_5
F31  B5A:IO_L17N_5
F32  B5B:VCCO_58  pas
F33  B5B:IO_L29P_5
F34  B9A:IO_L6P_9
F35  B9A:IO_L3N_9
F36  B9A:IO_L7N_9
F37  BGNDD:GND173  pas
F38  BB:GNDA_1025
F39  BD:MGTCLK_P_102
G1  BD:MGTCLK_N_113
G2  BC:GNDA_1137
G3  B10A:IO_L8P_CC_LC_10
G4  BGNDA:GND5  pas
G5  B10A:IO_L9N_CC_LC_10
G6  B10A:IO_L9P_CC_LC_10
G7  B10A:IO_L3P_10
G8  B6A:IO_L14P_6
G9  B6B:VCCO_63  pas
G10  B6A:IO_L4N_VREF_6
G11  B6A:IO_L5N_6
G12  B6A:IO_L11N_6
G13  B6A:IO_L15N_6
G14  BGNDB:GND45  pas
G15  B1B:IO_L8P_D17_CC_LC_1
G16  B1B:IO_L24N_LC_1
G17  B1B:IO_L24P_LC_1
G18  B3:IO_L8P_GC_LC_3
G19  B3:VCCO_30  pas
G20  B3:IO_L4P_GC_LC_3
G21  B1A:IO_L13N_GC_LC_1
G22  B1A:IO_L13P_GC_LC_1
G23  B1A:IO_L21P_LC_1
G24  BGNDC:GND111  pas
G25  B5A:IO_L20P_5
G26  B5A:IO_L16N_5
G27  B5A:IO_L10P_5
G28  B5A:IO_L4P_5
G29  B5B:VCCO_55  pas
G30  B5A:IO_L13P_5
G31  B5A:IO_L17P_5
G32  B5B:IO_L27N_5
G33  B5B:IO_L27P_5
G34  BGNDD:GND162  pas
G35  B9A:IO_L3P_9
G36  B9A:IO_L7P_9
G37  B9A:IO_L18N_9
G38  BB:GNDA_1026
G39  BD:MGTCLK_N_102
H1  BC:GNDA_1133
H2  BC:GNDA_1120
H3  B10A:IO_L8N_CC_LC_10
H4  B10A:IO_L12P_10
H5  B10A:IO_L13P_10
H6  B10B:VCCO_103  pas
H7  B10A:IO_L3N_10
H8  B6A:IO_L14N_6
H9  B6A:IO_L6P_6
H10  B6A:IO_L2P_6
H11  BGNDA:GND30  pas
H12  B6A:IO_L11P_6
H13  B6A:IO_L15P_6
H14  B6B:IO_L21N_6
H15  B1B:IO_L8N_D16_CC_LC_1
H16  B1B:VCCO_10  pas
H17  B1A:IO_L22P_LC_1
H18  B3:IO_L8N_GC_LC_3
H19  B3:IO_L3N_GC_LC_3
H20  B3:IO_L3P_GC_LC_3
H21  BGNDC:GND91  pas
H22  B1A:IO_L15N_GC_LC_1
H23  B1B:IO_L5N_D22_LC_1
H24  B1B:IO_L5P_D23_LC_1
H25  B5A:IO_L20N_VREF_5
H26  B5B:VCCO_52  pas
H27  B5A:IO_L10N_5
H28  B5A:IO_L4N_VREF_5
H29  B5B:IO_L5N_ADC4_5
H30  B5A:IO_L11N_5
H31  BGNDD:GND152  pas
H32  B9A:IO_L8N_CC_LC_9
H33  B9A:IO_L8P_CC_LC_9
H34  B9A:IO_L12N_VREF_9
H35  B9A:IO_L9N_CC_LC_9
H36  B9B:VCCO_97  pas
H37  B9A:IO_L18P_9
H38  BD:GNDA_10210
H39  BB:GNDA_1029
J1  BE:RXPPADA_112
J2  BC:GNDA_1121
J3  B10B:VCCO_100  pas
J4  B10A:IO_L12N_VREF_10
J5  B10A:IO_L13N_10
J6  B10A:IO_L6P_10
J7  BVCCAUX:VCCAUX0  pas
J8  BGNDA:GND20  pas
J9  B6A:IO_L6N_6
J10  B6A:IO_L2N_6
J11  B6A:IO_L3P_6
J12  B6A:IO_L9N_CC_LC_6
J13  B6B:VCCO_67  pas
J14  B6B:IO_L21P_6
J15  BVCCAUX:VCCAUX9  pas
J16  B1B:IO_L6P_D21_LC_1
J17  B1A:IO_L22N_LC_1
J18  BGNDB:GND72  pas
J19  B3:IO_L1N_GC_CC_LC_3
J20  B3:IO_L1P_GC_CC_LC_3
J21  B3:IO_L7N_GC_LC_3
J22  B1A:IO_L15P_GC_LC_1
J23  B1B:VCCO_16  pas
J24  B1B:IO_L3N_D26_LC_1
J25  BVCCAUX:VCCAUX15  pas
J26  B5A:IO_L14P_5
J27  B5B:IO_L8P_CC_ADC1_LC_5
J28  BGNDD:GND139  pas
J29  B5B:IO_L5P_ADC4_5
J30  B5A:IO_L11P_5
J31  B5A:IO_L23N_VRP_5
J32  B9A:IO_L1N_9
J33  B9B:VCCO_94  pas
J34  B9A:IO_L12P_9
J35  B9A:IO_L9P_CC_LC_9
J36  B9A:IO_L13N_9
J37  B9A:IO_L13P_9
J38  BB:GNDA_1030
J39  BE:RXPPADA_103
K1  BD:RXNPADA_112
K2  BA:AVCCAUXRXA_112
K3  B10A:IO_L16P_10
K4  B10A:IO_L19P_10
K5  BGNDA:GND9  pas
K6  B10A:IO_L6N_10
K7  B10A:IO_L11N_10
K8  B10A:IO_L11P_10
K9  B6A:IO_L10P_6
K10  B6B:VCCO_64  pas
K11  B6A:IO_L3N_6
K12  BVCCAUX:VCCAUX7  pas
K13  B6A:IO_L9P_CC_LC_6
K14  BVCCINTA:VCCINT16  pas
K15  BGNDB:GND53  pas
K16  B1B:IO_L6N_D20_LC_1
K17  B1A:IO_L18N_VRP_LC_1
K18  B1A:IO_L18P_VRN_LC_1
K19  B3:IO_L2P_GC_VRN_LC_3
K20  B3:VCCO_31  pas
K21  B3:IO_L7P_GC_LC_3
K22  BVCCAUX:VCCAUX14  pas
K23  B1B:IO_L1N_D30_LC_1
K24  B1B:IO_L3P_D27_LC_1
K25  BGNDC:GND117  pas
K26  B5A:IO_L14N_5
K27  B5B:IO_L8N_CC_ADC1_LC_5
K28  B5B:IO_L2P_ADC6_5
K29  B5B:IO_L3P_ADC5_5
K30  B5B:VCCO_56  pas
K31  B5A:IO_L23P_VRN_5
K32  B9A:IO_L1P_9
K33  B9A:IO_L16N_9
K34  B9A:IO_L11N_9
K35  BGNDD:GND166  pas
K36  B13A:IO_L2N_13
K37  B13A:IO_L2P_13
K38  BA:AVCCAUXRXA_103
K39  BD:RXNPADA_103
L1  BG:VTRXA_112
L2  BC:GNDA_1122
L3  B10A:IO_L16N_10
L4  B10B:IO_L19N_10
L5  B10A:IO_L14P_10
L6  B10A:IO_L17P_10
L7  B10B:VCCO_104  pas
L8  B10A:IO_L4P_10
L9  BVCCINTA:VCCINT3  pas
L10  B6A:IO_L10N_6
L11  BVCCINTA:VCCINT4  pas
L12  BGNDA:GND34  pas
L13  BVCCINTA:VCCINT10  pas
L14  BGNDB:GND46  pas
L15  BVCCINTA:VCCINT22  pas
L16  B1B:IO_L4P_D25_LC_1
L17  B1B:VCCO_11  pas
L18  B1A:IO_L16P_GC_CC_LC_1
L19  B3:IO_L2N_GC_VRP_LC_3
L20  B3:IO_L5N_GC_LC_3
L21  B3:IO_L5P_GC_LC_3
L22  BGNDC:GND99  pas
L23  B1A:IO_L19N_LC_1
L24  B1B:IO_L1P_D31_LC_1
L25  BVCCINTC:VCCINT79  pas
L26  B5B:IO_L28P_5
L27  B5B:VCCO_53  pas
L28  B5B:IO_L2N_ADC6_5
L29  B5B:IO_L3N_ADC5_5
L30  B5A:IO_L21N_5
L31  B5A:IO_L21P_5
L32  BGNDD:GND155  pas
L33  B9A:IO_L16P_9
L34  B9A:IO_L11P_9
L35  B9B:IO_L22N_9
L36  B13A:IO_L4N_VREF_13
L37  B9B:VCCO_99  pas
L38  BB:GNDA_1031
L39  BG:VTRXA_103
M1  BF:TXPPADA_112
M2  BG:VTTXA_112
M3  B10A:IO_L18P_10
M4  B10B:VCCO_101  pas
M5  B10A:IO_L14N_10
M6  B10A:IO_L17N_10
M7  B10A:IO_L4N_VREF_10
M8  BVCCAUX:VCCAUX2  pas
M9  BGNDA:GND23  pas
M10  B10A:IO_L2P_10
M11  B10A:IO_L1N_10
M12  BVCCINTA:VCCINT7  pas
M13  BGNDA:GND40  pas
M14  BVCCINTA:VCCINT17  pas
M15  BGNDB:GND54  pas
M16  B1B:IO_L4N_D24_VREF_LC_1
M17  B1A:IO_L14N_GC_LC_1
M18  B1A:IO_L16N_GC_CC_LC_1
M19  BGNDB:GND78  pas
M20  BVCCINTB:VCCINT50  pas
M21  B1A:IO_L9P_GC_LC_1
M22  BVCCINTB:VCCINT63  pas
M23  B1A:IO_L19P_LC_1
M24  B1B:VCCO_17  pas
M25  B1B:IO_L7P_D19_LC_1
M26  B5B:IO_L28N_VREF_5
M27  B5B:IO_L26N_5
M28  B5B:IO_L26P_5
M29  BGNDD:GND144  pas
M30  BVCCAUX:VCCAUX19  pas
M31  B9A:IO_L14N_9
M32  B9A:IO_L15N_9
M33  B9A:IO_L17N_9
M34  B9B:VCCO_95  pas
M35  B9B:IO_L22P_9
M36  B13A:IO_L4P_13
M37  B13A:IO_L1N_13
M38  BG:VTTXA_103
M39  BF:TXPPADA_103
N1  BE:TXNPADA_112
N2  BC:GNDA_1123
N3  B10A:IO_L18N_10
N4  B10B:IO_L23P_VRN_10
N5  B10B:IO_L20P_10
N6  BGNDA:GND13  pas
N7  B10B:IO_L21P_10
N8  B10A:IO_L15N_10
N9  B10A:IO_L15P_10
N10  B10A:IO_L2N_10
N11  B10B:VCCO_107  pas
N12  B10A:IO_L1P_10
N13  BVCCINTA:VCCINT11  pas
N14  BGNDB:GND47  pas
N15  BVCCINTA:VCCINT23  pas
N16  BGNDB:GND62  pas
N17  BVCCINTA:VCCINT34  pas
N18  B1A:IO_L14P_GC_LC_1
N19  B1A:IO_L10P_GC_LC_1
N20  B1A:IO_L9N_GC_LC_1
N21  B1B:VCCO_14  pas
N22  B1A:IO_L17N_CC_LC_1
N23  B1A:IO_L17P_CC_LC_1
N24  B1B:IO_L7N_D18_LC_1
N25  BVCCINTC:VCCINT80  pas
N26  BGNDC:GND126  pas
N27  BVCCINTC:VCCINT93  pas
N28  BGNDD:GND140  pas
N29  BVCCINTC:VCCINT103  pas
N30  B9A:IO_L14P_9
N31  B9B:VCCO_92  pas
N32  B9A:IO_L15P_9
N33  B9A:IO_L17P_9
N34  B9B:IO_L24N_CC_LC_9
N35  B9B:IO_L24P_CC_LC_9
N36  BGNDD:GND170  pas
N37  B13A:IO_L1P_13
N38  BB:GNDA_1032
N39  BE:TXNPADA_103
P1  BF:TXPPADB_112
P2  BA:AVCCAUXTX_112
P3  BGNDA:GND1  pas
P4  B10B:IO_L23N_VRP_10
P5  B10B:IO_L20N_VREF_10
P6  B10B:IO_L22P_10
P7  B10B:IO_L21N_10
P8  B10B:VCCO_105  pas
P9  B10A:IO_L10N_10
P10  B10A:IO_L10P_10
P11  B10A:IO_L5P_10
P12  B10A:IO_L7P_10
P13  BGNDA:GND41  pas
P14  BVCCINTA:VCCINT18  pas
P15  BGNDB:GND55  pas
P16  BVCCINTA:VCCINT30  pas
P17  B1A:IO_L12N_GC_VREF_LC_1
P18  B1B:VCCO_13  pas
P19  B1A:IO_L10N_GC_LC_1
P20  BVCCINTB:VCCINT51  pas
P21  BGNDC:GND92  pas
P22  BVCCINTB:VCCINT64  pas
P23  BGNDC:GND107  pas
P24  BVCCINTC:VCCINT75  pas
P25  BGNDC:GND118  pas
P26  BVCCINTC:VCCINT87  pas
P27  BGNDD:GND134  pas
P28  BVCCINTC:VCCINT99  pas
P29  BGNDD:GND145  pas
P30  B9B:IO_L20N_VREF_9
P31  B9B:IO_L20P_9
P32  B9B:IO_L19N_9
P33  BGNDD:GND159  pas
P34  BVCCINTC:VCCINT108  pas
P35  B13A:IO_L6N_13
P36  B13A:IO_L3N_13
P37  B13A:IO_L5N_13
P38  BA:AVCCAUXTX_103
P39  BF:TXPPADB_103
R1  BF:TXNPADB_112
R2  BG:VTTXB_112
R3  B10B:IO_L29P_10
R4  B10B:IO_L26P_10
R5  B10B:VCCO_102  pas
R6  B10B:IO_L22N_10
R7  B10B:IO_L24N_CC_LC_10
R8  B10B:IO_L24P_CC_LC_10
R9  BVCCAUX:VCCAUX4  pas
R10  BGNDA:GND27  pas
R11  B10A:IO_L5N_10
R12  B10A:IO_L7N_10
R13  BVCCINTA:VCCINT12  pas
R14  BGNDB:GND48  pas
R15  BVCCINTA:VCCINT24  pas
R16  BGNDB:GND63  pas
R17  BVCCINTA:VCCINT35  pas
R18  B1A:IO_L12P_GC_LC_1
R19  BVCCINTB:VCCINT45  pas
R20  BGNDB:GND86  pas
R21  BVCCINTB:VCCINT58  pas
R22  BGNDC:GND100  pas
R23  BVCCINTB:VCCINT70  pas
R24  BGNDC:GND112  pas
R25  BVCCINTC:VCCINT81  pas
R26  BGNDC:GND127  pas
R27  BVCCINTC:VCCINT94  pas
R28  BGNDD:GND141  pas
R29  BVCCAUX:VCCAUX18  pas
R30  BGNDD:GND149  pas
R31  B9B:IO_L21P_9
R32  B9A:IO_L19P_9
R33  B9B:IO_L23P_VRN_9
R34  B13A:IO_L6P_13
R35  B13B:VCCO_135  pas
R36  B13A:IO_L3P_13
R37  B13A:IO_L5P_13
R38  BG:VTTXB_103
R39  BF:TXNPADB_103
T1  BG:VTRXB_112
T2  BC:GNDA_1124
T3  B10B:IO_L29N_10
T4  B10B:IO_L26N_10
T5  B10B:IO_L31N_10
T6  B10B:IO_L31P_10
T7  BGNDA:GND17  pas
T8  B10B:IO_L30P_10
T9  B10B:IO_L28N_VREF_10
T10  B10B:IO_L28P_10
T11  B10B:IO_L25P_CC_LC_10
T12  B10B:VCCO_108  pas
T13  B10B:IO_L27P_10
T14  BVCCINTA:VCCINT19  pas
T15  BGNDB:GND56  pas
T16  BVCCINTA:VCCINT31  pas
T17  BGNDB:GND68  pas
T18  BVCCINTB:VCCINT39  pas
T19  BGNDB:GND79  pas
T20  BVCCINTB:VCCINT52  pas
T21  BGNDC:GND93  pas
T22  BVCCINTB:VCCINT65  pas
T23  BGNDC:GND108  pas
T24  BVCCINTC:VCCINT76  pas
T25  BGNDC:GND119  pas
T26  BVCCINTC:VCCINT88  pas
T27  BGNDD:GND135  pas
T28  BVCCINTC:VCCINT100  pas
T29  B9B:IO_L25N_CC_LC_9
T30  B9B:IO_L25P_CC_LC_9
T31  B9B:IO_L21N_9
T32  B9B:VCCO_93  pas
T33  B9B:IO_L23N_VRP_9
T34  B13A:IO_L8N_CC_LC_13
T35  B13A:IO_L8P_CC_LC_13
T36  B13A:IO_L7N_13
T37  BGNDD:GND174  pas
T38  BB:GNDA_1033
T39  BG:VTRXB_103
U1  BE:RXPPADB_112
U2  BA:AVCCAUXMGT_112
U3  B14A:IO_L2N_14
U4  BGNDA:GND6  pas
U5  B14A:IO_L1N_14
U6  B14A:IO_L1P_14
U7  BVCCAUX:VCCAUX1  pas
U8  B10B:IO_L30N_10
U9  B10B:VCCO_106  pas
U10  B10B:IO_L32P_10
U11  B10B:IO_L25N_CC_LC_10
U12  B10B:IO_L27N_10
U13  BVCCINTA:VCCINT13  pas
U14  BGNDB:GND49  pas
U15  B14A:IO_L3P_14
U16  B14A:IO_L7P_14
U17  BVCCINTA:VCCINT36  pas
U18  BGNDB:GND73  pas
U19  BVCCINTB:VCCINT46  pas
U20  BGNDB:GND87  pas
U21  BVCCINTB:VCCINT59  pas
U22  BGNDC:GND101  pas
U23  BVCCINTB:VCCINT71  pas
U24  BGNDC:GND113  pas
U25  BVCCINTC:VCCINT82  pas
U26  B9B:IO_L28N_VREF_9
U27  B9B:IO_L28P_9
U28  B9B:IO_L29N_9
U29  B9B:VCCO_91  pas
U30  B9B:IO_L27N_9
U31  B9B:IO_L27P_9
U32  B9B:IO_L26N_9
U33  B9B:IO_L26P_9
U34  BGNDD:GND163  pas
U35  B13A:IO_L10N_13
U36  B13A:IO_L7P_13
U37  B13A:IO_L9N_CC_LC_13
U38  BA:AVCCAUXMGT_103
U39  BE:RXPPADB_103
V1  BE:RXNPADB_112
V2  BA:AVCCAUXRXB_112
V3  B14A:IO_L2P_14
V4  B14A:IO_L4N_VREF_14
V5  B14A:IO_L6N_14
V6  B14B:VCCO_144  pas
V7  B14A:IO_L8N_CC_LC_14
V8  BVCCINTA:VCCINT2  pas
V9  B10B:IO_L32N_10
V10  BVCCAUX:VCCAUX6  pas
V11  BGNDA:GND31  pas
V12  B14A:IO_L11N_14
V13  B14A:IO_L11P_14
V14  B14A:IO_L3N_14
V15  B14A:IO_L15P_14
V16  B14B:VCCO_148  pas
V17  B14A:IO_L7N_14
V18  BVCCINTB:VCCINT40  pas
V19  BGNDB:GND80  pas
V20  BVCCINTB:VCCINT53  pas
V21  BGNDC:GND94  pas
V22  BVCCINTB:VCCINT66  pas
V23  BD:HSWAPEN_0
V24  BD:INIT_0
V25  B9B:IO_L30N_9
V26  B9B:VCCO_90  pas
V27  B9B:IO_L32N_9
V28  B9B:IO_L29P_9
V29  B9B:IO_L31N_9
V30  B9B:IO_L31P_9
V31  BGNDD:GND153  pas
V32  BVCCAUX:VCCAUX22  pas
V33  B13A:IO_L11N_13
V34  B13A:IO_L11P_13
V35  B13A:IO_L10P_13
V36  B13B:VCCO_136  pas
V37  B13A:IO_L9P_CC_LC_13
V38  BA:AVCCAUXRXB_103
V39  BD:RXNPADB_103
W1  BC:GNDA_1110
W2  BC:GNDA_1130
W3  B14B:VCCO_140  pas
W4  B14A:IO_L4P_14
W5  B14A:IO_L6P_14
W6  B14A:IO_L5N_14
W7  B14A:IO_L8P_CC_LC_14
W8  BGNDA:GND21  pas
W9  B14A:IO_L14N_14
W10  B14A:IO_L13N_14
W11  B14B:IO_L23N_VRP_14
W12  B14B:IO_L23P_VRN_14
W13  B14B:VCCO_147  pas
W14  B14B:IO_L21P_14
W15  B14A:IO_L15N_14
W16  B14B:IO_L19N_14
W17  B14A:IO_L19P_14
W18  BGNDB:GND74  pas
W19  BVCCINTB:VCCINT47  pas
W20  BB:CCLK_0
W21  BVCCAUX:VCCAUX13  pas
W22  BD:PROGRAM_B_0
W23  B0:VCCO_02  pas
W24  BF:VBATT_0
W25  BVCCINTC:VCCINT83  pas
W26  B9B:IO_L30P_9
W27  B9B:IO_L32P_9
W28  BGNDD:GND142  pas
W29  B13B:IO_L19N_13
W30  B13B:IO_L19P_13
W31  BVCCINTC:VCCINT105  pas
W32  B13A:IO_L14P_13
W33  B13B:VCCO_133  pas
W34  B13A:IO_L15N_13
W35  B13A:IO_L15P_13
W36  B13A:IO_L13P_13
W37  B13A:IO_L12P_13
W38  BB:GNDA_1034
W39  BB:GNDA_1045
Y1  BE:RXPPADA_111
Y2  BC:GNDA_1111
Y3  B14A:IO_L10N_14
Y4  B14A:IO_L10P_14
Y5  BGNDA:GND10  pas
Y6  B14A:IO_L5P_14
Y7  B14A:IO_L16N_14
Y8  B14A:IO_L16P_14
Y9  B14A:IO_L14P_14
Y10  B14B:VCCO_146  pas
Y11  B14A:IO_L13P_14
Y12  B14B:IO_L27N_14
Y13  B14B:IO_L27P_14
Y14  B14B:IO_L21N_14
Y15  BGNDB:GND57  pas
Y16  BB:D_IN_0
Y17  BB:CS_B_0
Y18  BD:RDWR_B_0
Y19  BB:DONE_0
Y20  B0:VCCO_01  pas
Y21  BD:PWRDWN_B_0
Y22  BD:M2_0
Y23  BD:M0_0
Y24  BD:M1_0
Y25  BGNDC:GND120  pas
Y26  B13B:IO_L26N_13
Y27  B13B:IO_L32N_13
Y28  BVCCINTC:VCCINT101  pas
Y29  B13B:IO_L31N_13
Y30  B13B:VCCO_132  pas
Y31  B13B:IO_L21N_13
Y32  B13B:IO_L21P_13
Y33  B13A:IO_L14N_13
Y34  B13A:IO_L16P_13
Y35  BGNDD:GND167  pas
Y36  B13A:IO_L13N_13
Y37  B13A:IO_L12N_VREF_13
Y38  BB:GNDA_1040
Y39  BE:RXPPADA_104

## Footprint FF1517 (pad centres in mm)
smd 0.45 x 0.45: A2 -18,19; A3 -17,19; A4 -16,19; A5 -15,19; A6 -14,19; A7 -13,19; A8 -12,19; A9 -11,19; A10 -10,19; A11 -9,19; A12 -8,19; A13 -7,19; A14 -6,19; A15 -5,19; A16 -4,19; A17 -3,19; A18 -2,19; A19 -1,19; A20 0,19; A21 1,19; A22 2,19; A23 3,19; A24 4,19; A25 5,19; A26 6,19; A27 7,19; A28 8,19; A29 9,19; A30 10,19; A31 11,19; A32 12,19; A33 13,19; A34 14,19; A35 15,19; A36 16,19; A37 17,19; A38 18,19; AA1 -19,-1; AA2 -18,-1; AA3 -17,-1; AA4 -16,-1; AA5 -15,-1; AA6 -14,-1; AA7 -13,-1; AA8 -12,-1; AA9 -11,-1; AA10 -10,-1; AA11 -9,-1; AA12 -8,-1; AA13 -7,-1; AA14 -6,-1; AA15 -5,-1; AA16 -4,-1; AA17 -3,-1; AA18 -2,-1; AA19 -1,-1; AA20 0,-1; AA21 1,-1; AA22 2,-1; AA23 3,-1; AA24 4,-1; AA25 5,-1; AA26 6,-1; AA27 7,-1; AA28 8,-1; AA29 9,-1; AA30 10,-1; AA31 11,-1; AA32 12,-1; AA33 13,-1; AA34 14,-1; AA35 15,-1; AA36 16,-1; AA37 17,-1; AA38 18,-1; AA39 19,-1; AB1 -19,-2; AB2 -18,-2; AB3 -17,-2; AB4 -16,-2; AB5 -15,-2; AB6 -14,-2; AB7 -13,-2; AB8 -12,-2; AB9 -11,-2; AB10 -10,-2; AB11 -9,-2; AB12 -8,-2; AB13 -7,-2; AB14 -6,-2; AB15 -5,-2; AB16 -4,-2; AB17 -3,-2; AB18 -2,-2; AB19 -1,-2; AB20 0,-2; AB21 1,-2; AB22 2,-2; AB23 3,-2; AB24 4,-2; AB25 5,-2; AB26 6,-2; AB27 7,-2; AB28 8,-2; AB29 9,-2; AB30 10,-2; AB31 11,-2; AB32 12,-2; AB33 13,-2; AB34 14,-2; AB35 15,-2; AB36 16,-2; AB37 17,-2; AB38 18,-2; AB39 19,-2; AC1 -19,-3; AC2 -18,-3; AC3 -17,-3; AC4 -16,-3; AC5 -15,-3; AC6 -14,-3; AC7 -13,-3; AC8 -12,-3; AC9 -11,-3; AC10 -10,-3; AC11 -9,-3; AC12 -8,-3; AC13 -7,-3; AC14 -6,-3; AC15 -5,-3; AC16 -4,-3; AC17 -3,-3; AC18 -2,-3; AC19 -1,-3; AC20 0,-3; AC21 1,-3; AC22 2,-3; AC23 3,-3; AC24 4,-3; AC25 5,-3; AC26 6,-3; AC27 7,-3; AC28 8,-3; AC29 9,-3; AC30 10,-3; AC31 11,-3; AC32 12,-3; AC33 13,-3; AC34 14,-3; AC35 15,-3; AC36 16,-3; AC37 17,-3; AC38 18,-3; AC39 19,-3; AD1 -19,-4; AD2 -18,-4; AD3 -17,-4; AD4 -16,-4; AD5 -15,-4; AD6 -14,-4; AD7 -13,-4; AD8 -12,-4; AD9 -11,-4; AD10 -10,-4; AD11 -9,-4; AD12 -8,-4; AD13 -7,-4; AD14 -6,-4; AD15 -5,-4; AD16 -4,-4; AD17 -3,-4; AD18 -2,-4; AD19 -1,-4; AD20 0,-4; AD21 1,-4; AD22 2,-4; AD23 3,-4; AD24 4,-4; AD25 5,-4; AD26 6,-4; AD27 7,-4; AD28 8,-4; AD29 9,-4; AD30 10,-4; AD31 11,-4; AD32 12,-4; AD33 13,-4; AD34 14,-4; AD35 15,-4; AD36 16,-4; AD37 17,-4; AD38 18,-4; AD39 19,-4; AE1 -19,-5; AE2 -18,-5; AE3 -17,-5; AE4 -16,-5; AE5 -15,-5; AE6 -14,-5; AE7 -13,-5; AE8 -12,-5; AE9 -11,-5; AE10 -10,-5; AE11 -9,-5; AE12 -8,-5; AE13 -7,-5; AE14 -6,-5; AE15 -5,-5; AE16 -4,-5; AE17 -3,-5; AE18 -2,-5; AE19 -1,-5; AE20 0,-5; AE21 1,-5; AE22 2,-5; AE23 3,-5; AE24 4,-5; AE25 5,-5; AE26 6,-5; AE27 7,-5; AE28 8,-5; AE29 9,-5; AE30 10,-5; AE31 11,-5; AE32 12,-5; AE33 13,-5; AE34 14,-5; AE35 15,-5; AE36 16,-5; AE37 17,-5; AE38 18,-5; AE39 19,-5; AF1 -19,-6; AF2 -18,-6; AF3 -17,-6; AF4 -16,-6; AF5 -15,-6; AF6 -14,-6; AF7 -13,-6; AF8 -12,-6; AF9 -11,-6; AF10 -10,-6; AF11 -9,-6; AF12 -8,-6; AF13 -7,-6; AF14 -6,-6; AF15 -5,-6; AF16 -4,-6; AF17 -3,-6; AF18 -2,-6; AF19 -1,-6; AF20 0,-6; AF21 1,-6; AF22 2,-6; AF23 3,-6; AF24 4,-6; AF25 5,-6; AF26 6,-6; AF27 7,-6; AF28 8,-6; AF29 9,-6; AF30 10,-6; AF31 11,-6; AF32 12,-6; AF33 13,-6; AF34 14,-6; AF35 15,-6; AF36 16,-6; AF37 17,-6; AF38 18,-6; AF39 19,-6; AG1 -19,-7; AG2 -18,-7; AG3 -17,-7; AG4 -16,-7; AG5 -15,-7; AG6 -14,-7; AG7 -13,-7; AG8 -12,-7; AG9 -11,-7; AG10 -10,-7; AG11 -9,-7; AG12 -8,-7; AG13 -7,-7; AG14 -6,-7; AG15 -5,-7; AG16 -4,-7; AG17 -3,-7; AG18 -2,-7; AG19 -1,-7; AG20 0,-7; AG21 1,-7; AG22 2,-7; AG23 3,-7; AG24 4,-7; AG25 5,-7; AG26 6,-7; AG27 7,-7; AG28 8,-7; AG29 9,-7; AG30 10,-7; AG31 11,-7; AG32 12,-7; AG33 13,-7; AG34 14,-7; AG35 15,-7; AG36 16,-7; AG37 17,-7; AG38 18,-7; AG39 19,-7; AH1 -19,-8; AH2 -18,-8; AH3 -17,-8; AH4 -16,-8; AH5 -15,-8; AH6 -14,-8; AH7 -13,-8; AH8 -12,-8; AH9 -11,-8; AH10 -10,-8; AH11 -9,-8; AH12 -8,-8; AH13 -7,-8; AH14 -6,-8; AH15 -5,-8; AH16 -4,-8; AH17 -3,-8; AH18 -2,-8; AH19 -1,-8; AH20 0,-8; AH21 1,-8; AH22 2,-8; AH23 3,-8; AH24 4,-8; AH25 5,-8; AH26 6,-8; AH27 7,-8; AH28 8,-8; AH29 9,-8; AH30 10,-8; AH31 11,-8; AH32 12,-8; AH33 13,-8; AH34 14,-8; AH35 15,-8; AH36 16,-8; AH37 17,-8; AH38 18,-8; AH39 19,-8; AJ1 -19,-9; AJ2 -18,-9; AJ3 -17,-9; AJ4 -16,-9; AJ5 -15,-9; AJ6 -14,-9; AJ7 -13,-9; AJ8 -12,-9; AJ9 -11,-9; AJ10 -10,-9; AJ11 -9,-9; AJ12 -8,-9; AJ13 -7,-9; AJ14 -6,-9; AJ15 -5,-9; AJ16 -4,-9; AJ17 -3,-9; AJ18 -2,-9; AJ19 -1,-9; AJ20 0,-9; AJ21 1,-9; AJ22 2,-9; AJ23 3,-9; AJ24 4,-9; AJ25 5,-9; AJ26 6,-9; AJ27 7,-9; AJ28 8,-9; AJ29 9,-9; AJ30 10,-9; AJ31 11,-9; AJ32 12,-9; AJ33 13,-9; AJ34 14,-9; AJ35 15,-9; AJ36 16,-9; AJ37 17,-9; AJ38 18,-9; AJ39 19,-9; AK1 -19,-10; AK2 -18,-10; AK3 -17,-10; AK4 -16,-10; AK5 -15,-10; AK6 -14,-10; AK7 -13,-10; AK8 -12,-10; AK9 -11,-10; AK10 -10,-10; AK11 -9,-10; AK12 -8,-10; AK13 -7,-10; AK14 -6,-10; AK15 -5,-10; AK16 -4,-10; AK17 -3,-10; AK18 -2,-10; AK19 -1,-10; AK20 0,-10; AK21 1,-10; AK22 2,-10; AK23 3,-10; AK24 4,-10; AK25 5,-10; AK26 6,-10; AK27 7,-10; AK28 8,-10; AK29 9,-10; AK30 10,-10; AK31 11,-10; AK32 12,-10; AK33 13,-10; AK34 14,-10; AK35 15,-10; AK36 16,-10; AK37 17,-10; AK38 18,-10; AK39 19,-10; AL1 -19,-11; AL2 -18,-11; AL3 -17,-11; AL4 -16,-11; AL5 -15,-11; AL6 -14,-11; AL7 -13,-11; AL8 -12,-11; AL9 -11,-11; AL10 -10,-11; AL11 -9,-11; AL12 -8,-11; AL13 -7,-11; AL14 -6,-11; AL15 -5,-11; AL16 -4,-11; AL17 -3,-11; AL18 -2,-11; AL19 -1,-11; AL20 0,-11; AL21 1,-11; AL22 2,-11; AL23 3,-11; AL24 4,-11; AL25 5,-11; AL26 6,-11; AL27 7,-11; AL28 8,-11; AL29 9,-11; AL30 10,-11; AL31 11,-11; AL32 12,-11; AL33 13,-11; AL34 14,-11; AL35 15,-11; AL36 16,-11; AL37 17,-11; AL38 18,-11; AL39 19,-11; AM1 -19,-12; AM2 -18,-12; AM3 -17,-12; AM4 -16,-12; AM5 -15,-12; AM6 -14,-12; AM7 -13,-12; AM8 -12,-12; AM9 -11,-12; AM10 -10,-12; AM11 -9,-12; AM12 -8,-12; AM13 -7,-12; AM14 -6,-12; AM15 -5,-12; AM16 -4,-12; AM17 -3,-12; AM18 -2,-12; AM19 -1,-12; AM20 0,-12; AM21 1,-12; AM22 2,-12; AM23 3,-12; AM24 4,-12; AM25 5,-12; AM26 6,-12; AM27 7,-12; AM28 8,-12; AM29 9,-12; AM30 10,-12; AM31 11,-12; AM32 12,-12; AM33 13,-12; AM34 14,-12; AM35 15,-12; AM36 16,-12; AM37 17,-12; AM38 18,-12; AM39 19,-12; AN1 -19,-13; AN2 -18,-13; AN3 -17,-13; AN4 -16,-13; AN5 -15,-13; AN6 -14,-13; AN7 -13,-13; AN8 -12,-13; AN9 -11,-13; AN10 -10,-13; AN11 -9,-13; AN12 -8,-13; AN13 -7,-13; AN14 -6,-13; AN15 -5,-13; AN16 -4,-13; AN17 -3,-13; AN18 -2,-13; AN19 -1,-13; AN20 0,-13; AN21 1,-13; AN22 2,-13; AN23 3,-13; AN24 4,-13; AN25 5,-13; AN26 6,-13; AN27 7,-13; AN28 8,-13; AN29 9,-13; AN30 10,-13; AN31 11,-13; AN32 12,-13; AN33 13,-13; AN34 14,-13; AN35 15,-13; AN36 16,-13; AN37 17,-13; AN38 18,-13; AN39 19,-13; AP1 -19,-14; AP2 -18,-14; AP3 -17,-14; AP4 -16,-14; AP5 -15,-14; AP6 -14,-14; AP7 -13,-14; AP8 -12,-14; AP9 -11,-14; AP10 -10,-14; AP11 -9,-14; AP12 -8,-14; AP13 -7,-14; AP14 -6,-14; AP15 -5,-14; AP16 -4,-14; AP17 -3,-14; AP18 -2,-14; AP19 -1,-14; AP20 0,-14; AP21 1,-14; AP22 2,-14; AP23 3,-14; AP24 4,-14; AP25 5,-14; AP26 6,-14; AP27 7,-14; AP28 8,-14; AP29 9,-14; AP30 10,-14; AP31 11,-14; AP32 12,-14; AP33 13,-14; AP34 14,-14; AP35 15,-14; AP36 16,-14; AP37 17,-14; AP38 18,-14; AP39 19,-14; AR1 -19,-15; AR2 -18,-15; AR3 -17,-15; AR4 -16,-15; AR5 -15,-15; AR6 -14,-15; AR7 -13,-15; AR8 -12,-15; AR9 -11,-15; AR10 -10,-15; AR11 -9,-15; AR12 -8,-15; AR13 -7,-15; AR14 -6,-15; AR15 -5,-15; AR16 -4,-15; AR17 -3,-15; AR18 -2,-15; AR19 -1,-15; AR20 0,-15; AR21 1,-15; AR22 2,-15; AR23 3,-15; AR24 4,-15; AR25 5,-15; AR26 6,-15; AR27 7,-15; AR28 8,-15; AR29 9,-15; AR30 10,-15; AR31 11,-15; AR32 12,-15; AR33 13,-15; AR34 14,-15; AR35 15,-15; AR36 16,-15; AR37 17,-15; AR38 18,-15; AR39 19,-15; AT1 -19,-16; AT2 -18,-16; AT3 -17,-16; AT4 -16,-16; AT5 -15,-16; AT6 -14,-16; AT7 -13,-16; AT8 -12,-16; AT9 -11,-16; AT10 -10,-16; AT11 -9,-16; AT12 -8,-16; AT13 -7,-16; AT14 -6,-16; AT15 -5,-16; AT16 -4,-16; AT17 -3,-16; AT18 -2,-16; AT19 -1,-16; AT20 0,-16; AT21 1,-16; AT22 2,-16; AT23 3,-16; AT24 4,-16; AT25 5,-16; AT26 6,-16; AT27 7,-16; AT28 8,-16; AT29 9,-16; AT30 10,-16; AT31 11,-16; AT32 12,-16; AT33 13,-16; AT34 14,-16; AT35 15,-16; AT36 16,-16; AT37 17,-16; AT38 18,-16; AT39 19,-16; AU1 -19,-17; AU2 -18,-17; AU3 -17,-17; AU4 -16,-17; AU5 -15,-17; AU6 -14,-17; AU7 -13,-17; AU8 -12,-17; AU9 -11,-17; AU10 -10,-17; AU11 -9,-17; AU12 -8,-17; AU13 -7,-17; AU14 -6,-17; AU15 -5,-17; AU16 -4,-17; AU17 -3,-17; AU18 -2,-17; AU19 -1,-17; AU20 0,-17; AU21 1,-17; AU22 2,-17; AU23 3,-17; AU24 4,-17; AU25 5,-17; AU26 6,-17; AU27 7,-17; AU28 8,-17; AU29 9,-17; AU30 10,-17; AU31 11,-17; AU32 12,-17; AU33 13,-17; AU34 14,-17; AU35 15,-17; AU36 16,-17; AU37 17,-17; AU38 18,-17; AU39 19,-17; AV1 -19,-18; AV2 -18,-18; AV3 -17,-18; AV4 -16,-18; AV5 -15,-18; AV6 -14,-18; AV7 -13,-18; AV8 -12,-18; AV9 -11,-18; AV10 -10,-18; AV11 -9,-18; AV12 -8,-18; AV13 -7,-18; AV14 -6,-18; AV15 -5,-18; AV16 -4,-18; AV17 -3,-18; AV18 -2,-18; AV19 -1,-18; AV20 0,-18; AV21 1,-18; AV22 2,-18; AV23 3,-18; AV24 4,-18; AV25 5,-18; AV26 6,-18; AV27 7,-18; AV28 8,-18; AV29 9,-18; AV30 10,-18; AV31 11,-18; AV32 12,-18; AV33 13,-18; AV34 14,-18; AV35 15,-18; AV36 16,-18; AV37 17,-18; AV38 18,-18; AV39 19,-18; AW2 -18,-19; AW3 -17,-19; AW4 -16,-19; AW5 -15,-19; AW6 -14,-19; AW7 -13,-19; AW8 -12,-19; AW9 -11,-19; AW10 -10,-19; AW11 -9,-19; AW12 -8,-19; AW13 -7,-19; AW14 -6,-19; AW15 -5,-19; AW16 -4,-19; AW17 -3,-19; AW18 -2,-19; AW19 -1,-19; AW20 0,-19; AW21 1,-19; AW22 2,-19; AW23 3,-19; AW24 4,-19; AW25 5,-19; AW26 6,-19; AW27 7,-19; AW28 8,-19; AW29 9,-19; AW30 10,-19; AW31 11,-19; AW32 12,-19; AW33 13,-19; AW34 14,-19; AW35 15,-19; AW36 16,-19; AW37 17,-19; AW38 18,-19; B1 -19,18; B2 -18,18; B3 -17,18; B4 -16,18; B5 -15,18; B6 -14,18; B7 -13,18; B8 -12,18; B9 -11,18; B10 -10,18; B11 -9,18; B12 -8,18; B13 -7,18; B14 -6,18; B15 -5,18; B16 -4,18; B17 -3,18; B18 -2,18; B19 -1,18; B20 0,18; B21 1,18; B22 2,18; B23 3,18; B24 4,18; B25 5,18; B26 6,18; B27 7,18; B28 8,18; B29 9,18; B30 10,18; B31 11,18; B32 12,18; B33 13,18; B34 14,18; B35 15,18; B36 16,18; B37 17,18; B38 18,18; B39 19,18; C1 -19,17; C2 -18,17; C3 -17,17; C4 -16,17; C5 -15,17; C6 -14,17; C7 -13,17; C8 -12,17; C9 -11,17; C10 -10,17; C11 -9,17; C12 -8,17; C13 -7,17; C14 -6,17; C15 -5,17; C16 -4,17; C17 -3,17; C18 -2,17; C19 -1,17; C20 0,17; C21 1,17; C22 2,17; C23 3,17; C24 4,17; C25 5,17; C26 6,17; C27 7,17; C28 8,17; C29 9,17; C30 10,17; C31 11,17; C32 12,17; C33 13,17; C34 14,17; C35 15,17; C36 16,17; C37 17,17; C38 18,17; C39 19,17; D1 -19,16; D2 -18,16; D3 -17,16; D4 -16,16; D5 -15,16; D6 -14,16; D7 -13,16; D8 -12,16; D9 -11,16; D10 -10,16; D11 -9,16; D12 -8,16; D13 -7,16; D14 -6,16; D15 -5,16; D16 -4,16; D17 -3,16; D18 -2,16; D19 -1,16; D20 0,16; D21 1,16; D22 2,16; D23 3,16; D24 4,16; D25 5,16; D26 6,16; D27 7,16; D28 8,16; D29 9,16; D30 10,16; D31 11,16; D32 12,16; D33 13,16; D34 14,16; D35 15,16; D36 16,16; D37 17,16; D38 18,16; D39 19,16; E1 -19,15; E2 -18,15; E3 -17,15; E4 -16,15; E5 -15,15; E6 -14,15; E7 -13,15; E8 -12,15; E9 -11,15; E10 -10,15; E11 -9,15; E12 -8,15; E13 -7,15; E14 -6,15; E15 -5,15; E16 -4,15; E17 -3,15; E18 -2,15; E19 -1,15; E20 0,15; E21 1,15; E22 2,15; E23 3,15; E24 4,15; E25 5,15; E26 6,15; E27 7,15; E28 8,15; E29 9,15; E30 10,15; E31 11,15; E32 12,15; E33 13,15; E34 14,15; E35 15,15; E36 16,15; E37 17,15; E38 18,15; E39 19,15; F1 -19,14; F2 -18,14; F3 -17,14; F4 -16,14; F5 -15,14; F6 -14,14; F7 -13,14; F8 -12,14; F9 -11,14; F10 -10,14; F11 -9,14; F12 -8,14; F13 -7,14; F14 -6,14; F15 -5,14; F16 -4,14; F17 -3,14; F18 -2,14; F19 -1,14; F20 0,14; F21 1,14; F22 2,14; F23 3,14; F24 4,14; F25 5,14; F26 6,14; F27 7,14; F28 8,14; F29 9,14; F30 10,14; F31 11,14; F32 12,14; F33 13,14; F34 14,14; F35 15,14; F36 16,14; F37 17,14; F38 18,14; F39 19,14; G1 -19,13; G2 -18,13; G3 -17,13; G4 -16,13; G5 -15,13; G6 -14,13; G7 -13,13; G8 -12,13; G9 -11,13; G10 -10,13; G11 -9,13; G12 -8,13; G13 -7,13; G14 -6,13; G15 -5,13; G16 -4,13; G17 -3,13; G18 -2,13; G19 -1,13; G20 0,13; G21 1,13; G22 2,13; G23 3,13; G24 4,13; G25 5,13; G26 6,13; G27 7,13; G28 8,13; G29 9,13; G30 10,13; G31 11,13; G32 12,13; G33 13,13; G34 14,13; G35 15,13; G36 16,13; G37 17,13; G38 18,13; G39 19,13; H1 -19,12; H2 -18,12; H3 -17,12; H4 -16,12; H5 -15,12; H6 -14,12; H7 -13,12; H8 -12,12; H9 -11,12; H10 -10,12; H11 -9,12; H12 -8,12; H13 -7,12; H14 -6,12; H15 -5,12; H16 -4,12; H17 -3,12; H18 -2,12; H19 -1,12; H20 0,12; H21 1,12; H22 2,12; H23 3,12; H24 4,12; H25 5,12; H26 6,12; H27 7,12; H28 8,12; H29 9,12; H30 10,12; H31 11,12; H32 12,12; H33 13,12; H34 14,12; H35 15,12; H36 16,12; H37 17,12; H38 18,12; H39 19,12; J1 -19,11; J2 -18,11; J3 -17,11; J4 -16,11; J5 -15,11; J6 -14,11; J7 -13,11; J8 -12,11; J9 -11,11; J10 -10,11; J11 -9,11; J12 -8,11; J13 -7,11; J14 -6,11; J15 -5,11; J16 -4,11; J17 -3,11; J18 -2,11; J19 -1,11; J20 0,11; J21 1,11; J22 2,11; J23 3,11; J24 4,11; J25 5,11; J26 6,11; J27 7,11; J28 8,11; J29 9,11; J30 10,11; J31 11,11; J32 12,11; J33 13,11; J34 14,11; J35 15,11; J36 16,11; J37 17,11; J38 18,11; J39 19,11; K1 -19,10; K2 -18,10; K3 -17,10; K4 -16,10; K5 -15,10; K6 -14,10; K7 -13,10; K8 -12,10; K9 -11,10; K10 -10,10; K11 -9,10; K12 -8,10; K13 -7,10; K14 -6,10; K15 -5,10; K16 -4,10; K17 -3,10; K18 -2,10; K19 -1,10; K20 0,10; K21 1,10; K22 2,10; K23 3,10; K24 4,10; K25 5,10; K26 6,10; K27 7,10; K28 8,10; K29 9,10; K30 10,10; K31 11,10; K32 12,10; K33 13,10; K34 14,10; K35 15,10; K36 16,10; K37 17,10; K38 18,10; K39 19,10; L1 -19,9; L2 -18,9; L3 -17,9; L4 -16,9; L5 -15,9; L6 -14,9; L7 -13,9; L8 -12,9; L9 -11,9; L10 -10,9; L11 -9,9; L12 -8,9; L13 -7,9; L14 -6,9; L15 -5,9; L16 -4,9; L17 -3,9; L18 -2,9; L19 -1,9; L20 0,9; L21 1,9; L22 2,9; L23 3,9; L24 4,9; L25 5,9; L26 6,9; L27 7,9; L28 8,9; L29 9,9; L30 10,9; L31 11,9; L32 12,9; L33 13,9; L34 14,9; L35 15,9; L36 16,9; L37 17,9; L38 18,9; L39 19,9; M1 -19,8; M2 -18,8; M3 -17,8; M4 -16,8; M5 -15,8; M6 -14,8; M7 -13,8; M8 -12,8; M9 -11,8; M10 -10,8; M11 -9,8; M12 -8,8; M13 -7,8; M14 -6,8; M15 -5,8; M16 -4,8; M17 -3,8; M18 -2,8; M19 -1,8; M20 0,8; M21 1,8; M22 2,8; M23 3,8; M24 4,8; M25 5,8; M26 6,8; M27 7,8; M28 8,8; M29 9,8; M30 10,8; M31 11,8; M32 12,8; M33 13,8; M34 14,8; M35 15,8; M36 16,8; M37 17,8; M38 18,8; M39 19,8; N1 -19,7; N2 -18,7; N3 -17,7; N4 -16,7; N5 -15,7; N6 -14,7; N7 -13,7; N8 -12,7; N9 -11,7; N10 -10,7; N11 -9,7; N12 -8,7; N13 -7,7; N14 -6,7; N15 -5,7; N16 -4,7; N17 -3,7; N18 -2,7; N19 -1,7; N20 0,7; N21 1,7; N22 2,7; N23 3,7; N24 4,7; N25 5,7; N26 6,7; N27 7,7; N28 8,7; N29 9,7; N30 10,7; N31 11,7; N32 12,7; N33 13,7; N34 14,7; N35 15,7; N36 16,7; N37 17,7; N38 18,7; N39 19,7; P1 -19,6; P2 -18,6; P3 -17,6; P4 -16,6; P5 -15,6; P6 -14,6; P7 -13,6; P8 -12,6; P9 -11,6; P10 -10,6; P11 -9,6; P12 -8,6; P13 -7,6; P14 -6,6; P15 -5,6; P16 -4,6; P17 -3,6; P18 -2,6; P19 -1,6; P20 0,6; P21 1,6; P22 2,6; P23 3,6; P24 4,6; P25 5,6; P26 6,6; P27 7,6; P28 8,6; P29 9,6; P30 10,6; P31 11,6; P32 12,6; P33 13,6; P34 14,6; P35 15,6; P36 16,6; P37 17,6; P38 18,6; P39 19,6; R1 -19,5; R2 -18,5; R3 -17,5; R4 -16,5; R5 -15,5; R6 -14,5; R7 -13,5; R8 -12,5; R9 -11,5; R10 -10,5; R11 -9,5; R12 -8,5; R13 -7,5; R14 -6,5; R15 -5,5; R16 -4,5; R17 -3,5; R18 -2,5; R19 -1,5; R20 0,5; R21 1,5; R22 2,5; R23 3,5; R24 4,5; R25 5,5; R26 6,5; R27 7,5; R28 8,5; R29 9,5; R30 10,5; R31 11,5; R32 12,5; R33 13,5; R34 14,5; R35 15,5; R36 16,5; R37 17,5; R38 18,5; R39 19,5; T1 -19,4; T2 -18,4; T3 -17,4; T4 -16,4; T5 -15,4; T6 -14,4; T7 -13,4; T8 -12,4; T9 -11,4; T10 -10,4; T11 -9,4; T12 -8,4; T13 -7,4; T14 -6,4; T15 -5,4; T16 -4,4; T17 -3,4; T18 -2,4; T19 -1,4; T20 0,4; T21 1,4; T22 2,4; T23 3,4; T24 4,4; T25 5,4; T26 6,4; T27 7,4; T28 8,4; T29 9,4; T30 10,4; T31 11,4; T32 12,4; T33 13,4; T34 14,4; T35 15,4; T36 16,4; T37 17,4; T38 18,4; T39 19,4; U1 -19,3; U2 -18,3; U3 -17,3; U4 -16,3; U5 -15,3; U6 -14,3; U7 -13,3; U8 -12,3; U9 -11,3; U10 -10,3; U11 -9,3; U12 -8,3; U13 -7,3; U14 -6,3; U15 -5,3; U16 -4,3; U17 -3,3; U18 -2,3; U19 -1,3; U20 0,3; U21 1,3; U22 2,3; U23 3,3; U24 4,3; U25 5,3; U26 6,3; U27 7,3; U28 8,3; U29 9,3; U30 10,3; U31 11,3; U32 12,3; U33 13,3; U34 14,3; U35 15,3; U36 16,3; U37 17,3; U38 18,3; U39 19,3; V1 -19,2; V2 -18,2; V3 -17,2; V4 -16,2; V5 -15,2; V6 -14,2; V7 -13,2; V8 -12,2; V9 -11,2; V10 -10,2; V11 -9,2; V12 -8,2; V13 -7,2; V14 -6,2; V15 -5,2; V16 -4,2; V17 -3,2; V18 -2,2; V19 -1,2; V20 0,2; V21 1,2; V22 2,2; V23 3,2; V24 4,2; V25 5,2; V26 6,2; V27 7,2; V28 8,2; V29 9,2; V30 10,2; V31 11,2; V32 12,2; V33 13,2; V34 14,2; V35 15,2; V36 16,2; V37 17,2; V38 18,2; V39 19,2; W1 -19,1; W2 -18,1; W3 -17,1; W4 -16,1; W5 -15,1; W6 -14,1; W7 -13,1; W8 -12,1; W9 -11,1; W10 -10,1; W11 -9,1; W12 -8,1; W13 -7,1; W14 -6,1; W15 -5,1; W16 -4,1; W17 -3,1; W18 -2,1; W19 -1,1; W20 0,1; W21 1,1; W22 2,1; W23 3,1; W24 4,1; W25 5,1; W26 6,1; W27 7,1; W28 8,1; W29 9,1; W30 10,1; W31 11,1; W32 12,1; W33 13,1; W34 14,1; W35 15,1; W36 16,1; W37 17,1; W38 18,1; W39 19,1; Y1 -19,0; Y2 -18,0; Y3 -17,0; Y4 -16,0; Y5 -15,0; Y6 -14,0; Y7 -13,0; Y8 -12,0; Y9 -11,0; Y10 -10,0; Y11 -9,0; Y12 -8,0; Y13 -7,0; Y14 -6,0; Y15 -5,0; Y16 -4,0; Y17 -3,0; Y18 -2,0; Y19 -1,0; Y20 0,0; Y21 1,0; Y22 2,0; Y23 3,0; Y24 4,0; Y25 5,0; Y26 6,0; Y27 7,0; Y28 8,0; Y29 9,0; Y30 10,0; Y31 11,0; Y32 12,0; Y33 13,0; Y34 14,0; Y35 15,0; Y36 16,0; Y37 17,0; Y38 18,0; Y39 19,0